# Altium integrated library Renesas Microcontroller H8S.IntLib: 670 symbols (part 49 of 70)
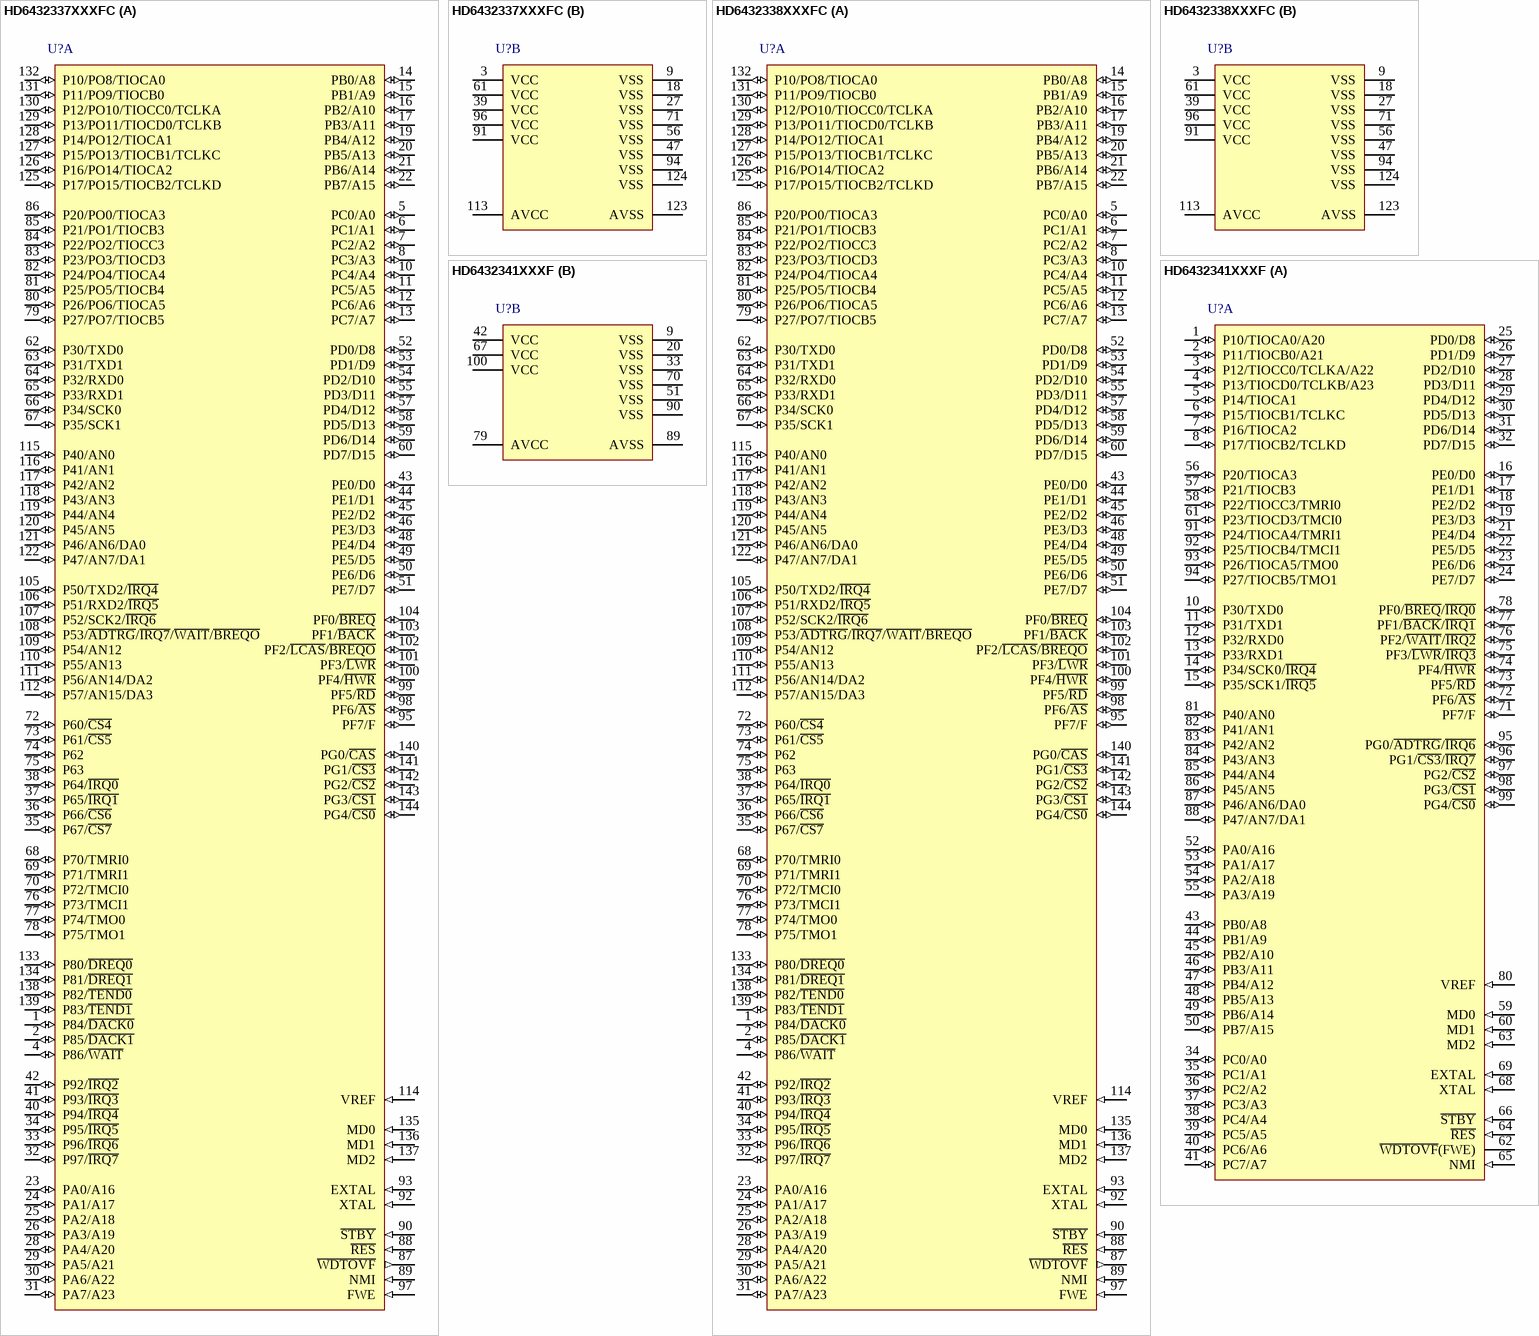
[diagram p269: symbols HD6432337XXXFC to HD6432341XXXF]

## HD6432341XXXF
designator U?
Mask ROM H8S/2300 Series, 2345 Group MCU, 32K ROM, 2K RAM, FP-100A Pkg; Published: 28-Aug-2009; DatasheetVersion: Rev.4.00, Feb-2006; PackageVersion: Sep-2005; PackageReference: PRQP0100JE-B; Publisher: Altium Limited; PackageDescription: 100-Pin Plastic Quad Flat Pack, 20 x 14 x 2.7 mm Body, 0.65 mm Pitch; Code_JEITA: P-QFP100-14x20-0.65; ComponentLink1Description: Manufacturer Link; ComponentLink1URL: http://sg.renesas.com/fmwk.jsp?cnt=h8s_family_landing.jsp&fp=/products/mpumcu/h8s_family/; ComponentLink2Description: Datasheet; ComponentLink2URL: http://documentation.renesas.com/eng/products/mpumcu/rej09b0291_2345hm.pdf; ComponentLink3Description: Packaging Specification; ComponentLink3URL: http://sg.renesas.com/media/products/common_info/package/pdf/ic/code/prqp0100je_b.pdf
footprint PRQP0100JE-B_N (QFP, 100-Leads, Body 20x14mm, Pitch 0.65mm, IPC Medium Density)
footprint PRQP0100JE-B_L (QFP, 100-Leads, Body 20x14mm, Pitch 0.65mm, IPC High Density)
footprint PRQP0100JE-B_M (QFP, 100-Leads, Body 20x14mm, Pitch 0.65mm, IPC Low Density)
part A pins: 1 P10/TIOCA0/A20 (io), 2 P11/TIOCB0/A21 (io), 3 P12/TIOCC0/TCLKA/A22 (io), 4 P13/TIOCD0/TCLKB/A23 (io), 5 P14/TIOCA1 (io), 6 P15/TIOCB1/TCLKC (io), 7 P16/TIOCA2 (io), 8 P17/TIOCB2/TCLKD (io), 10 P30/TXD0 (io), 11 P31/TXD1 (io), 12 P32/RXD0 (io), 13 P33/RXD1 (io), 14 P34/SCK0/~{IRQ4} (io), 15 P35/SCK1/~{IRQ5} (io), 16 PE0/D0 (io), 17 PE1/D1 (io), 18 PE2/D2 (io), 19 PE3/D3 (io), 21 PE4/D4 (io), 22 PE5/D5 (io), 23 PE6/D6 (io), 24 PE7/D7 (io), 25 PD0/D8 (io), 26 PD1/D9 (io), 27 PD2/D10 (io), 28 PD3/D11 (io), 29 PD4/D12 (io), 30 PD5/D13 (io), 31 PD6/D14 (io), 32 PD7/D15 (io), 34 PC0/A0 (io), 35 PC1/A1 (io), 36 PC2/A2 (io), 37 PC3/A3 (io), 38 PC4/A4 (io), 39 PC5/A5 (io), 40 PC6/A6 (io), 41 PC7/A7 (io), 43 PB0/A8 (io), 44 PB1/A9 (io), 45 PB2/A10 (io), 46 PB3/A11 (io), 47 PB4/A12 (io), 48 PB5/A13 (io), 49 PB6/A14 (io), 50 PB7/A15 (io), 52 PA0/A16 (io), 53 PA1/A17 (io), 54 PA2/A18 (io), 55 PA3/A19 (io), 56 P20/TIOCA3 (io), 57 P21/TIOCB3 (io), 58 P22/TIOCC3/TMRI0 (io), 59 MD0 (in), 60 MD1 (in), 61 P23/TIOCD3/TMCI0 (io), 62 ~{WDTOVF}(FWE), 63 MD2 (in), 64 ~{RES} (in), 65 NMI (in), 66 ~{STBY} (in), 68 XTAL (in), 69 EXTAL (in), 71 PF7/F (io), 72 PF6/~{AS} (io), 73 PF5/~{RD} (io), 74 PF4/~{HWR} (io), 75 PF3/~{LWR}/~{IRQ3} (io), 76 PF2/~{WAIT}/~{IRQ2} (io), 77 PF1/~{BACK}/~{IRQ1} (io), 78 PF0/~{BREQ}/~{IRQ0} (io), 80 VREF (in), 81 P40/AN0 (io), 82 P41/AN1 (io), 83 P42/AN2 (io), 84 P43/AN3 (io), 85 P44/AN4 (io), 86 P45/AN5 (io), 87 P46/AN6/DA0 (io), 88 P47/AN7/DA1 (io), 91 P24/TIOCA4/TMRI1 (io), 92 P25/TIOCB4/TMCI1 (io), 93 P26/TIOCA5/TMO0 (io), 94 P27/TIOCB5/TMO1 (io), 95 PG0/~{ADTRG}/~{IRQ6} (io), 96 PG1/~{CS3}/~{IRQ7} (io), 97 PG2/~{CS2} (io), 98 PG3/~{CS1} (io), 99 PG4/~{CS0} (io)
part B pins: 9 VSS (power), 20 VSS (power), 33 VSS (power), 42 VCC (power), 51 VSS (power), 67 VCC (power), 70 VSS (power), 79 AVCC (power), 89 AVSS (power), 90 VSS (power), 100 VCC (power)

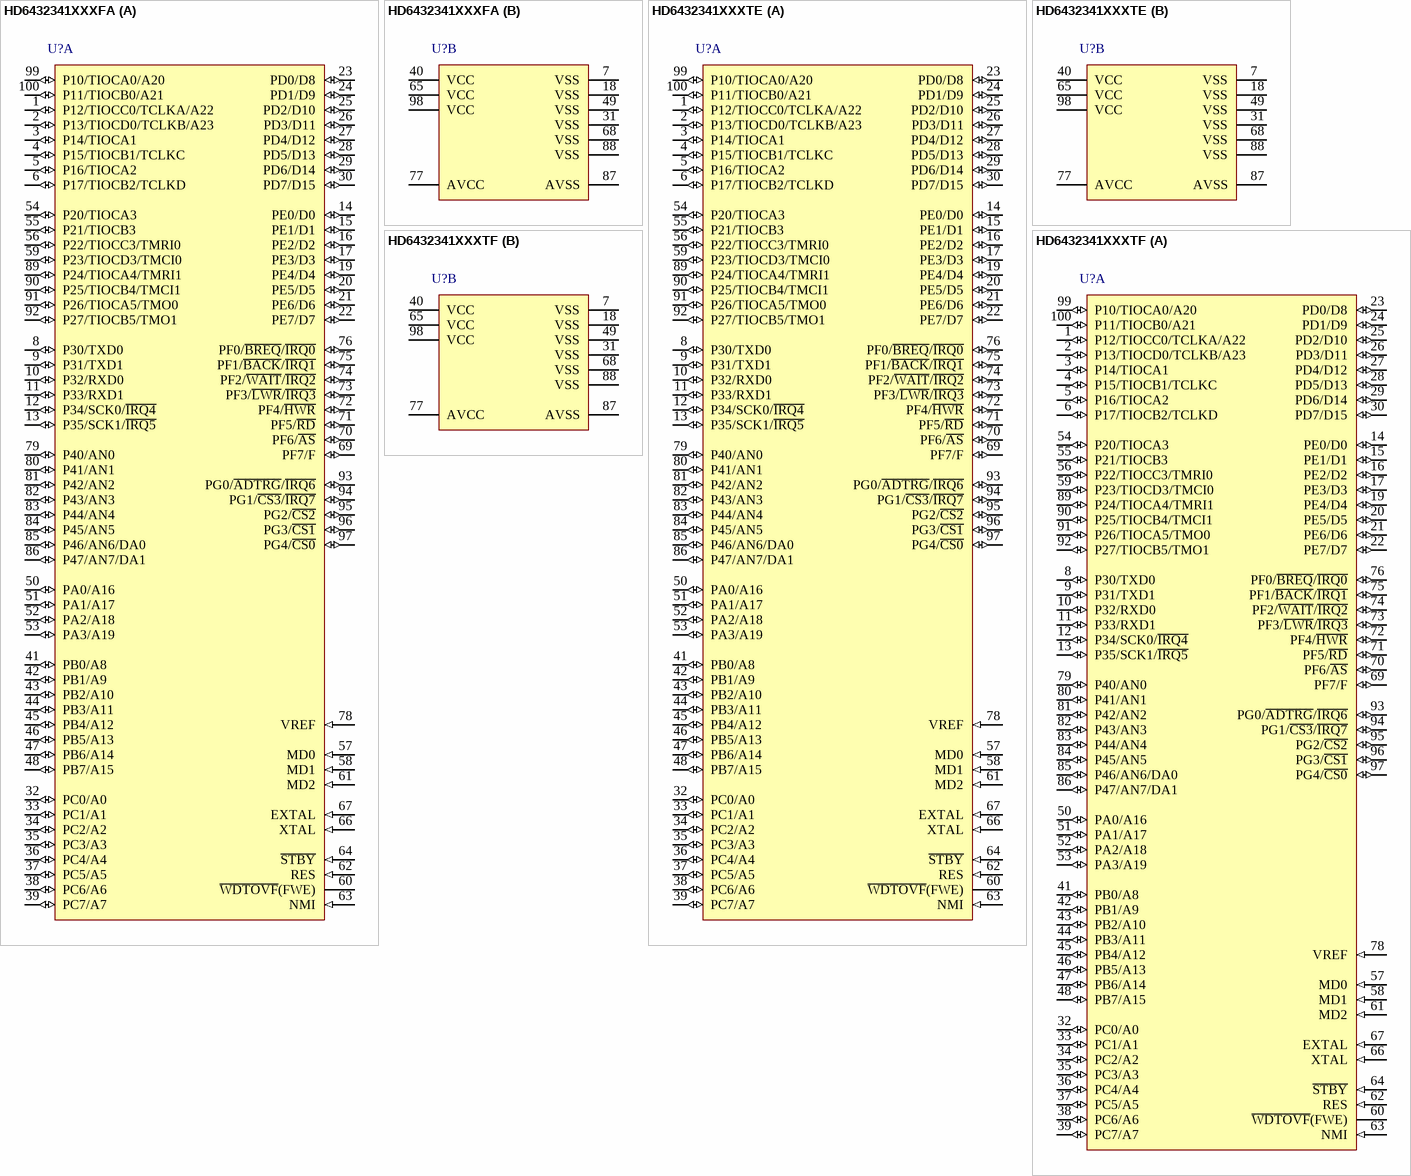
[diagram p169: symbols HD6432341XXXFA to HD6432341XXXTF]

## HD6432341XXXFA
designator U?
Mask ROM H8S/2300 Series, 2345 Group MCU, 32K ROM, 2K RAM, FP-100B Pkg; Published: 28-Aug-2009; DatasheetVersion: Rev.4.00, Feb-2006; PackageVersion: Sep-2009; PackageReference: PRQP0100KA-A; Publisher: Altium Limited; PackageDescription: 100-Pin Plastic Quad Flat Pack, 14 x 14 x 2.7 mm Body, 0.5 mm Pitch; Code_JEITA: P-QFP100-14x14-0.50; ComponentLink1Description: Manufacturer Link; ComponentLink1URL: http://sg.renesas.com/fmwk.jsp?cnt=h8s_family_landing.jsp&fp=/products/mpumcu/h8s_family/; ComponentLink2Description: Datasheet; ComponentLink2URL: http://documentation.renesas.com/eng/products/mpumcu/rej09b0291_2345hm.pdf; ComponentLink3Description: Packaging Specification; ComponentLink3URL: http://sg.renesas.com/media/products/common_info/package/pdf/ic/code/prqp0100ka_a.pdf
footprint PRQP0100KA-A_N (Shrink QFP, 100-Leads, Body 14x14mm, Pitch 0.5mm, IPC Medium Density)
footprint PRQP0100KA-A_L (Shrink QFP, 100-Leads, Body 14x14mm, Pitch 0.5mm, IPC High Density)
footprint PRQP0100KA-A_M (Shrink QFP, 100-Leads, Body 14x14mm, Pitch 0.5mm, IPC Low Density)
part A pins: 1 P12/TIOCC0/TCLKA/A22 (io), 2 P13/TIOCD0/TCLKB/A23 (io), 3 P14/TIOCA1 (io), 4 P15/TIOCB1/TCLKC (io), 5 P16/TIOCA2 (io), 6 P17/TIOCB2/TCLKD (io), 8 P30/TXD0 (io), 9 P31/TXD1 (io), 10 P32/RXD0 (io), 11 P33/RXD1 (io), 12 P34/SCK0/~{IRQ4} (io), 13 P35/SCK1/~{IRQ5} (io), 14 PE0/D0 (io), 15 PE1/D1 (io), 16 PE2/D2 (io), 17 PE3/D3 (io), 19 PE4/D4 (io), 20 PE5/D5 (io), 21 PE6/D6 (io), 22 PE7/D7 (io), 23 PD0/D8 (io), 24 PD1/D9 (io), 25 PD2/D10 (io), 26 PD3/D11 (io), 27 PD4/D12 (io), 28 PD5/D13 (io), 29 PD6/D14 (io), 30 PD7/D15 (io), 32 PC0/A0 (io), 33 PC1/A1 (io), 34 PC2/A2 (io), 35 PC3/A3 (io), 36 PC4/A4 (io), 37 PC5/A5 (io), 38 PC6/A6 (io), 39 PC7/A7 (io), 41 PB0/A8 (io), 42 PB1/A9 (io), 43 PB2/A10 (io), 44 PB3/A11 (io), 45 PB4/A12 (io), 46 PB5/A13 (io), 47 PB6/A14 (io), 48 PB7/A15 (io), 50 PA0/A16 (io), 51 PA1/A17 (io), 52 PA2/A18 (io), 53 PA3/A19 (io), 54 P20/TIOCA3 (io), 55 P21/TIOCB3 (io), 56 P22/TIOCC3/TMRI0 (io), 57 MD0 (in), 58 MD1 (in), 59 P23/TIOCD3/TMCI0 (io), 60 ~{WDTOVF}(FWE), 61 MD2 (in), 62 RES (in), 63 NMI (in), 64 ~{STBY} (in), 66 XTAL (in), 67 EXTAL (in), 69 PF7/F (io), 70 PF6/~{AS} (io), 71 PF5/~{RD} (io), 72 PF4/~{HWR} (io), 73 PF3/~{LWR}/~{IRQ3} (io), 74 PF2/~{WAIT}/~{IRQ2} (io), 75 PF1/~{BACK}/~{IRQ1} (io), 76 PF0/~{BREQ}/~{IRQ0} (io), 78 VREF (in), 79 P40/AN0 (io), 80 P41/AN1 (io), 81 P42/AN2 (io), 82 P43/AN3 (io), 83 P44/AN4 (io), 84 P45/AN5 (io), 85 P46/AN6/DA0 (io), 86 P47/AN7/DA1 (io), 89 P24/TIOCA4/TMRI1 (io), 90 P25/TIOCB4/TMCI1 (io), 91 P26/TIOCA5/TMO0 (io), 92 P27/TIOCB5/TMO1 (io), 93 PG0/~{ADTRG}/~{IRQ6} (io), 94 PG1/~{CS3}/~{IRQ7} (io), 95 PG2/~{CS2} (io), 96 PG3/~{CS1} (io), 97 PG4/~{CS0} (io), 99 P10/TIOCA0/A20 (io), 100 P11/TIOCB0/A21 (io)
part B pins: 7 VSS (power), 18 VSS (power), 31 VSS (power), 40 VCC (power), 49 VSS (power), 65 VCC (power), 68 VSS (power), 77 AVCC (power), 87 AVSS (power), 88 VSS (power), 98 VCC (power)

## HD6432341XXXTE
designator U?
Mask ROM H8S/2300 Series, 2345 Group MCU, 32K ROM, 2K RAM, TFP-100B Pkg; Published: 28-Aug-2009; DatasheetVersion: Rev.4.00, Feb-2006; PackageVersion: Sep-2005; PackageReference: PTQP0100KA-A; Publisher: Altium Limited; PackageDescription: 100-Pin Plastic Thin Quad Flat Pack, 14 x 14 x 1.0 mm Body, 0.5 mm Pitch; Code_JEITA: P-TQFP100-14x14-0.50; ComponentLink1Description: Manufacturer Link; ComponentLink1URL: http://sg.renesas.com/fmwk.jsp?cnt=h8s_family_landing.jsp&fp=/products/mpumcu/h8s_family/; ComponentLink2Description: Datasheet; ComponentLink2URL: http://documentation.renesas.com/eng/products/mpumcu/rej09b0291_2345hm.pdf; ComponentLink3Description: Packaging Specification; ComponentLink3URL: http://sg.renesas.com/media/products/common_info/package/pdf/ic/code/ptqp0100ka_a.pdf
footprint PTQP0100KA-A_N (Thin QFP, 100-Leads, Body 14x14mm, Pitch 0.5mm, IPC Medium Density)
footprint PTQP0100KA-A_L (Thin QFP, 100-Leads, Body 14x14mm, Pitch 0.5mm, IPC High Density)
footprint PTQP0100KA-A_M (Thin QFP, 100-Leads, Body 14x14mm, Pitch 0.5mm, IPC Low Density)
part A pins: 1 P12/TIOCC0/TCLKA/A22 (io), 2 P13/TIOCD0/TCLKB/A23 (io), 3 P14/TIOCA1 (io), 4 P15/TIOCB1/TCLKC (io), 5 P16/TIOCA2 (io), 6 P17/TIOCB2/TCLKD (io), 8 P30/TXD0 (io), 9 P31/TXD1 (io), 10 P32/RXD0 (io), 11 P33/RXD1 (io), 12 P34/SCK0/~{IRQ4} (io), 13 P35/SCK1/~{IRQ5} (io), 14 PE0/D0 (io), 15 PE1/D1 (io), 16 PE2/D2 (io), 17 PE3/D3 (io), 19 PE4/D4 (io), 20 PE5/D5 (io), 21 PE6/D6 (io), 22 PE7/D7 (io), 23 PD0/D8 (io), 24 PD1/D9 (io), 25 PD2/D10 (io), 26 PD3/D11 (io), 27 PD4/D12 (io), 28 PD5/D13 (io), 29 PD6/D14 (io), 30 PD7/D15 (io), 32 PC0/A0 (io), 33 PC1/A1 (io), 34 PC2/A2 (io), 35 PC3/A3 (io), 36 PC4/A4 (io), 37 PC5/A5 (io), 38 PC6/A6 (io), 39 PC7/A7 (io), 41 PB0/A8 (io), 42 PB1/A9 (io), 43 PB2/A10 (io), 44 PB3/A11 (io), 45 PB4/A12 (io), 46 PB5/A13 (io), 47 PB6/A14 (io), 48 PB7/A15 (io), 50 PA0/A16 (io), 51 PA1/A17 (io), 52 PA2/A18 (io), 53 PA3/A19 (io), 54 P20/TIOCA3 (io), 55 P21/TIOCB3 (io), 56 P22/TIOCC3/TMRI0 (io), 57 MD0 (in), 58 MD1 (in), 59 P23/TIOCD3/TMCI0 (io), 60 ~{WDTOVF}(FWE), 61 MD2 (in), 62 RES (in), 63 NMI (in), 64 ~{STBY} (in), 66 XTAL (in), 67 EXTAL (in), 69 PF7/F (io), 70 PF6/~{AS} (io), 71 PF5/~{RD} (io), 72 PF4/~{HWR} (io), 73 PF3/~{LWR}/~{IRQ3} (io), 74 PF2/~{WAIT}/~{IRQ2} (io), 75 PF1/~{BACK}/~{IRQ1} (io), 76 PF0/~{BREQ}/~{IRQ0} (io), 78 VREF (in), 79 P40/AN0 (io), 80 P41/AN1 (io), 81 P42/AN2 (io), 82 P43/AN3 (io), 83 P44/AN4 (io), 84 P45/AN5 (io), 85 P46/AN6/DA0 (io), 86 P47/AN7/DA1 (io), 89 P24/TIOCA4/TMRI1 (io), 90 P25/TIOCB4/TMCI1 (io), 91 P26/TIOCA5/TMO0 (io), 92 P27/TIOCB5/TMO1 (io), 93 PG0/~{ADTRG}/~{IRQ6} (io), 94 PG1/~{CS3}/~{IRQ7} (io), 95 PG2/~{CS2} (io), 96 PG3/~{CS1} (io), 97 PG4/~{CS0} (io), 99 P10/TIOCA0/A20 (io), 100 P11/TIOCB0/A21 (io)
part B pins: 7 VSS (power), 18 VSS (power), 31 VSS (power), 40 VCC (power), 49 VSS (power), 65 VCC (power), 68 VSS (power), 77 AVCC (power), 87 AVSS (power), 88 VSS (power), 98 VCC (power)

## HD6432341XXXTF
designator U?
Mask ROM H8S/2300 Series, 2345 Group MCU, 32K ROM, 2K RAM, TFP-100G Pkg; Published: 28-Aug-2009; DatasheetVersion: Rev.4.00, Feb-2006; PackageVersion: Sep-2005; PackageReference: PTQP0100LC-A; Publisher: Altium Limited; PackageDescription: 100-Pin Plastic Thin QFP, 12 x 12 x 1.0 mm Body, 0.4 mm Pitch; Code_JEITA: P-TQFP100-12x12-0.40; ComponentLink1Description: Manufacturer Link; ComponentLink1URL: http://sg.renesas.com/fmwk.jsp?cnt=h8s_family_landing.jsp&fp=/products/mpumcu/h8s_family/; ComponentLink2Description: Datasheet; ComponentLink2URL: http://documentation.renesas.com/eng/products/mpumcu/rej09b0291_2345hm.pdf; ComponentLink3Description: Packaging Specification; ComponentLink3URL: http://sg.renesas.com/media/products/common_info/package/pdf/ic/code/ptqp0100lc_a.pdf
footprint PTQP0100LC-A_N (Thin QFP, 100-Leads, Body 12x12mm, Pitch 0.4mm, IPC Medium Density)
footprint PTQP0100LC-A_L (Thin QFP, 100-Leads, Body 12x12mm, Pitch 0.4mm, IPC High Density)
footprint PTQP0100LC-A_M (Thin QFP, 100-Leads, Body 12x12mm, Pitch 0.4mm, IPC Low Density)
part A pins: 1 P12/TIOCC0/TCLKA/A22 (io), 2 P13/TIOCD0/TCLKB/A23 (io), 3 P14/TIOCA1 (io), 4 P15/TIOCB1/TCLKC (io), 5 P16/TIOCA2 (io), 6 P17/TIOCB2/TCLKD (io), 8 P30/TXD0 (io), 9 P31/TXD1 (io), 10 P32/RXD0 (io), 11 P33/RXD1 (io), 12 P34/SCK0/~{IRQ4} (io), 13 P35/SCK1/~{IRQ5} (io), 14 PE0/D0 (io), 15 PE1/D1 (io), 16 PE2/D2 (io), 17 PE3/D3 (io), 19 PE4/D4 (io), 20 PE5/D5 (io), 21 PE6/D6 (io), 22 PE7/D7 (io), 23 PD0/D8 (io), 24 PD1/D9 (io), 25 PD2/D10 (io), 26 PD3/D11 (io), 27 PD4/D12 (io), 28 PD5/D13 (io), 29 PD6/D14 (io), 30 PD7/D15 (io), 32 PC0/A0 (io), 33 PC1/A1 (io), 34 PC2/A2 (io), 35 PC3/A3 (io), 36 PC4/A4 (io), 37 PC5/A5 (io), 38 PC6/A6 (io), 39 PC7/A7 (io), 41 PB0/A8 (io), 42 PB1/A9 (io), 43 PB2/A10 (io), 44 PB3/A11 (io), 45 PB4/A12 (io), 46 PB5/A13 (io), 47 PB6/A14 (io), 48 PB7/A15 (io), 50 PA0/A16 (io), 51 PA1/A17 (io), 52 PA2/A18 (io), 53 PA3/A19 (io), 54 P20/TIOCA3 (io), 55 P21/TIOCB3 (io), 56 P22/TIOCC3/TMRI0 (io), 57 MD0 (in), 58 MD1 (in), 59 P23/TIOCD3/TMCI0 (io), 60 ~{WDTOVF}(FWE), 61 MD2 (in), 62 RES (in), 63 NMI (in), 64 ~{STBY} (in), 66 XTAL (in), 67 EXTAL (in), 69 PF7/F (io), 70 PF6/~{AS} (io), 71 PF5/~{RD} (io), 72 PF4/~{HWR} (io), 73 PF3/~{LWR}/~{IRQ3} (io), 74 PF2/~{WAIT}/~{IRQ2} (io), 75 PF1/~{BACK}/~{IRQ1} (io), 76 PF0/~{BREQ}/~{IRQ0} (io), 78 VREF (in), 79 P40/AN0 (io), 80 P41/AN1 (io), 81 P42/AN2 (io), 82 P43/AN3 (io), 83 P44/AN4 (io), 84 P45/AN5 (io), 85 P46/AN6/DA0 (io), 86 P47/AN7/DA1 (io), 89 P24/TIOCA4/TMRI1 (io), 90 P25/TIOCB4/TMCI1 (io), 91 P26/TIOCA5/TMO0 (io), 92 P27/TIOCB5/TMO1 (io), 93 PG0/~{ADTRG}/~{IRQ6} (io), 94 PG1/~{CS3}/~{IRQ7} (io), 95 PG2/~{CS2} (io), 96 PG3/~{CS1} (io), 97 PG4/~{CS0} (io), 99 P10/TIOCA0/A20 (io), 100 P11/TIOCB0/A21 (io)
part B pins: 7 VSS (power), 18 VSS (power), 31 VSS (power), 40 VCC (power), 49 VSS (power), 65 VCC (power), 68 VSS (power), 77 AVCC (power), 87 AVSS (power), 88 VSS (power), 98 VCC (power)

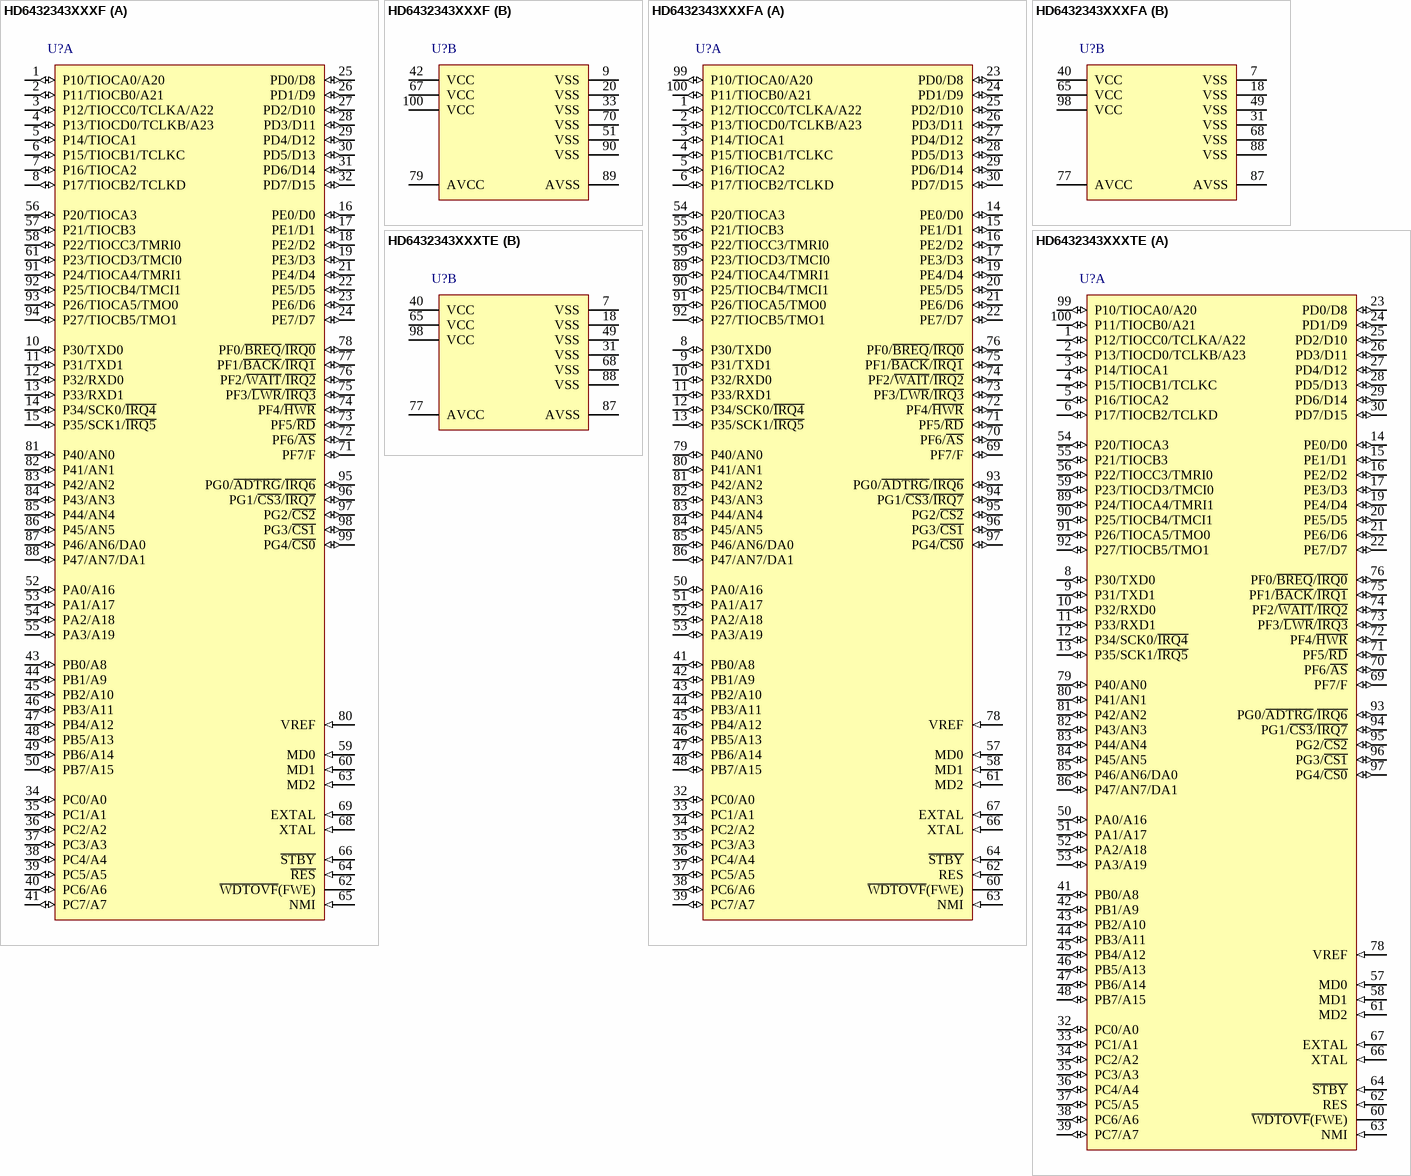
[diagram p170: symbols HD6432343XXXF to HD6432343XXXTE]

## HD6432343XXXF
designator U?
Mask ROM H8S/2300 Series, 2345 Group MCU, 64K ROM, 2K RAM, FP-100A Pkg; Published: 28-Aug-2009; DatasheetVersion: Rev.4.00, Feb-2006; PackageVersion: Sep-2005; PackageReference: PRQP0100JE-B; Publisher: Altium Limited; PackageDescription: 100-Pin Plastic Quad Flat Pack, 20 x 14 x 2.7 mm Body, 0.65 mm Pitch; Code_JEITA: P-QFP100-14x20-0.65; ComponentLink1Description: Manufacturer Link; ComponentLink1URL: http://sg.renesas.com/fmwk.jsp?cnt=h8s_family_landing.jsp&fp=/products/mpumcu/h8s_family/; ComponentLink2Description: Datasheet; ComponentLink2URL: http://documentation.renesas.com/eng/products/mpumcu/rej09b0291_2345hm.pdf; ComponentLink3Description: Packaging Specification; ComponentLink3URL: http://sg.renesas.com/media/products/common_info/package/pdf/ic/code/prqp0100je_b.pdf
footprint PRQP0100JE-B_N (QFP, 100-Leads, Body 20x14mm, Pitch 0.65mm, IPC Medium Density)
footprint PRQP0100JE-B_L (QFP, 100-Leads, Body 20x14mm, Pitch 0.65mm, IPC High Density)
footprint PRQP0100JE-B_M (QFP, 100-Leads, Body 20x14mm, Pitch 0.65mm, IPC Low Density)
part A pins: 1 P10/TIOCA0/A20 (io), 2 P11/TIOCB0/A21 (io), 3 P12/TIOCC0/TCLKA/A22 (io), 4 P13/TIOCD0/TCLKB/A23 (io), 5 P14/TIOCA1 (io), 6 P15/TIOCB1/TCLKC (io), 7 P16/TIOCA2 (io), 8 P17/TIOCB2/TCLKD (io), 10 P30/TXD0 (io), 11 P31/TXD1 (io), 12 P32/RXD0 (io), 13 P33/RXD1 (io), 14 P34/SCK0/~{IRQ4} (io), 15 P35/SCK1/~{IRQ5} (io), 16 PE0/D0 (io), 17 PE1/D1 (io), 18 PE2/D2 (io), 19 PE3/D3 (io), 21 PE4/D4 (io), 22 PE5/D5 (io), 23 PE6/D6 (io), 24 PE7/D7 (io), 25 PD0/D8 (io), 26 PD1/D9 (io), 27 PD2/D10 (io), 28 PD3/D11 (io), 29 PD4/D12 (io), 30 PD5/D13 (io), 31 PD6/D14 (io), 32 PD7/D15 (io), 34 PC0/A0 (io), 35 PC1/A1 (io), 36 PC2/A2 (io), 37 PC3/A3 (io), 38 PC4/A4 (io), 39 PC5/A5 (io), 40 PC6/A6 (io), 41 PC7/A7 (io), 43 PB0/A8 (io), 44 PB1/A9 (io), 45 PB2/A10 (io), 46 PB3/A11 (io), 47 PB4/A12 (io), 48 PB5/A13 (io), 49 PB6/A14 (io), 50 PB7/A15 (io), 52 PA0/A16 (io), 53 PA1/A17 (io), 54 PA2/A18 (io), 55 PA3/A19 (io), 56 P20/TIOCA3 (io), 57 P21/TIOCB3 (io), 58 P22/TIOCC3/TMRI0 (io), 59 MD0 (in), 60 MD1 (in), 61 P23/TIOCD3/TMCI0 (io), 62 ~{WDTOVF}(FWE), 63 MD2 (in), 64 ~{RES} (in), 65 NMI (in), 66 ~{STBY} (in), 68 XTAL (in), 69 EXTAL (in), 71 PF7/F (io), 72 PF6/~{AS} (io), 73 PF5/~{RD} (io), 74 PF4/~{HWR} (io), 75 PF3/~{LWR}/~{IRQ3} (io), 76 PF2/~{WAIT}/~{IRQ2} (io), 77 PF1/~{BACK}/~{IRQ1} (io), 78 PF0/~{BREQ}/~{IRQ0} (io), 80 VREF (in), 81 P40/AN0 (io), 82 P41/AN1 (io), 83 P42/AN2 (io), 84 P43/AN3 (io), 85 P44/AN4 (io), 86 P45/AN5 (io), 87 P46/AN6/DA0 (io), 88 P47/AN7/DA1 (io), 91 P24/TIOCA4/TMRI1 (io), 92 P25/TIOCB4/TMCI1 (io), 93 P26/TIOCA5/TMO0 (io), 94 P27/TIOCB5/TMO1 (io), 95 PG0/~{ADTRG}/~{IRQ6} (io), 96 PG1/~{CS3}/~{IRQ7} (io), 97 PG2/~{CS2} (io), 98 PG3/~{CS1} (io), 99 PG4/~{CS0} (io)
part B pins: 9 VSS (power), 20 VSS (power), 33 VSS (power), 42 VCC (power), 51 VSS (power), 67 VCC (power), 70 VSS (power), 79 AVCC (power), 89 AVSS (power), 90 VSS (power), 100 VCC (power)

## HD6432343XXXFA
designator U?
Mask ROM H8S/2300 Series, 2345 Group MCU, 64K ROM, 2K RAM, FP-100B Pkg; Published: 28-Aug-2009; DatasheetVersion: Rev.4.00, Feb-2006; PackageVersion: Sep-2009; PackageReference: PRQP0100KA-A; Publisher: Altium Limited; PackageDescription: 100-Pin Plastic Quad Flat Pack, 14 x 14 x 2.7 mm Body, 0.5 mm Pitch; Code_JEITA: P-QFP100-14x14-0.50; ComponentLink1Description: Manufacturer Link; ComponentLink1URL: http://sg.renesas.com/fmwk.jsp?cnt=h8s_family_landing.jsp&fp=/products/mpumcu/h8s_family/; ComponentLink2Description: Datasheet; ComponentLink2URL: http://documentation.renesas.com/eng/products/mpumcu/rej09b0291_2345hm.pdf; ComponentLink3Description: Packaging Specification; ComponentLink3URL: http://sg.renesas.com/media/products/common_info/package/pdf/ic/code/prqp0100ka_a.pdf
footprint PRQP0100KA-A_N (Shrink QFP, 100-Leads, Body 14x14mm, Pitch 0.5mm, IPC Medium Density)
footprint PRQP0100KA-A_L (Shrink QFP, 100-Leads, Body 14x14mm, Pitch 0.5mm, IPC High Density)
footprint PRQP0100KA-A_M (Shrink QFP, 100-Leads, Body 14x14mm, Pitch 0.5mm, IPC Low Density)
part A pins: 1 P12/TIOCC0/TCLKA/A22 (io), 2 P13/TIOCD0/TCLKB/A23 (io), 3 P14/TIOCA1 (io), 4 P15/TIOCB1/TCLKC (io), 5 P16/TIOCA2 (io), 6 P17/TIOCB2/TCLKD (io), 8 P30/TXD0 (io), 9 P31/TXD1 (io), 10 P32/RXD0 (io), 11 P33/RXD1 (io), 12 P34/SCK0/~{IRQ4} (io), 13 P35/SCK1/~{IRQ5} (io), 14 PE0/D0 (io), 15 PE1/D1 (io), 16 PE2/D2 (io), 17 PE3/D3 (io), 19 PE4/D4 (io), 20 PE5/D5 (io), 21 PE6/D6 (io), 22 PE7/D7 (io), 23 PD0/D8 (io), 24 PD1/D9 (io), 25 PD2/D10 (io), 26 PD3/D11 (io), 27 PD4/D12 (io), 28 PD5/D13 (io), 29 PD6/D14 (io), 30 PD7/D15 (io), 32 PC0/A0 (io), 33 PC1/A1 (io), 34 PC2/A2 (io), 35 PC3/A3 (io), 36 PC4/A4 (io), 37 PC5/A5 (io), 38 PC6/A6 (io), 39 PC7/A7 (io), 41 PB0/A8 (io), 42 PB1/A9 (io), 43 PB2/A10 (io), 44 PB3/A11 (io), 45 PB4/A12 (io), 46 PB5/A13 (io), 47 PB6/A14 (io), 48 PB7/A15 (io), 50 PA0/A16 (io), 51 PA1/A17 (io), 52 PA2/A18 (io), 53 PA3/A19 (io), 54 P20/TIOCA3 (io), 55 P21/TIOCB3 (io), 56 P22/TIOCC3/TMRI0 (io), 57 MD0 (in), 58 MD1 (in), 59 P23/TIOCD3/TMCI0 (io), 60 ~{WDTOVF}(FWE), 61 MD2 (in), 62 RES (in), 63 NMI (in), 64 ~{STBY} (in), 66 XTAL (in), 67 EXTAL (in), 69 PF7/F (io), 70 PF6/~{AS} (io), 71 PF5/~{RD} (io), 72 PF4/~{HWR} (io), 73 PF3/~{LWR}/~{IRQ3} (io), 74 PF2/~{WAIT}/~{IRQ2} (io), 75 PF1/~{BACK}/~{IRQ1} (io), 76 PF0/~{BREQ}/~{IRQ0} (io), 78 VREF (in), 79 P40/AN0 (io), 80 P41/AN1 (io), 81 P42/AN2 (io), 82 P43/AN3 (io), 83 P44/AN4 (io), 84 P45/AN5 (io), 85 P46/AN6/DA0 (io), 86 P47/AN7/DA1 (io), 89 P24/TIOCA4/TMRI1 (io), 90 P25/TIOCB4/TMCI1 (io), 91 P26/TIOCA5/TMO0 (io), 92 P27/TIOCB5/TMO1 (io), 93 PG0/~{ADTRG}/~{IRQ6} (io), 94 PG1/~{CS3}/~{IRQ7} (io), 95 PG2/~{CS2} (io), 96 PG3/~{CS1} (io), 97 PG4/~{CS0} (io), 99 P10/TIOCA0/A20 (io), 100 P11/TIOCB0/A21 (io)
part B pins: 7 VSS (power), 18 VSS (power), 31 VSS (power), 40 VCC (power), 49 VSS (power), 65 VCC (power), 68 VSS (power), 77 AVCC (power), 87 AVSS (power), 88 VSS (power), 98 VCC (power)

## HD6432343XXXTE
designator U?
Mask ROM H8S/2300 Series, 2345 Group MCU, 64K ROM, 2K RAM, TFP-100B Pkg; Published: 28-Aug-2009; DatasheetVersion: Rev.4.00, Feb-2006; PackageVersion: Sep-2005; PackageReference: PTQP0100KA-A; Publisher: Altium Limited; PackageDescription: 100-Pin Plastic Thin Quad Flat Pack, 14 x 14 x 1.0 mm Body, 0.5 mm Pitch; Code_JEITA: P-TQFP100-14x14-0.50; ComponentLink1Description: Manufacturer Link; ComponentLink1URL: http://sg.renesas.com/fmwk.jsp?cnt=h8s_family_landing.jsp&fp=/products/mpumcu/h8s_family/; ComponentLink2Description: Datasheet; ComponentLink2URL: http://documentation.renesas.com/eng/products/mpumcu/rej09b0291_2345hm.pdf; ComponentLink3Description: Packaging Specification; ComponentLink3URL: http://sg.renesas.com/media/products/common_info/package/pdf/ic/code/ptqp0100ka_a.pdf
footprint PTQP0100KA-A_N (Thin QFP, 100-Leads, Body 14x14mm, Pitch 0.5mm, IPC Medium Density)
footprint PTQP0100KA-A_L (Thin QFP, 100-Leads, Body 14x14mm, Pitch 0.5mm, IPC High Density)
footprint PTQP0100KA-A_M (Thin QFP, 100-Leads, Body 14x14mm, Pitch 0.5mm, IPC Low Density)
part A pins: 1 P12/TIOCC0/TCLKA/A22 (io), 2 P13/TIOCD0/TCLKB/A23 (io), 3 P14/TIOCA1 (io), 4 P15/TIOCB1/TCLKC (io), 5 P16/TIOCA2 (io), 6 P17/TIOCB2/TCLKD (io), 8 P30/TXD0 (io), 9 P31/TXD1 (io), 10 P32/RXD0 (io), 11 P33/RXD1 (io), 12 P34/SCK0/~{IRQ4} (io), 13 P35/SCK1/~{IRQ5} (io), 14 PE0/D0 (io), 15 PE1/D1 (io), 16 PE2/D2 (io), 17 PE3/D3 (io), 19 PE4/D4 (io), 20 PE5/D5 (io), 21 PE6/D6 (io), 22 PE7/D7 (io), 23 PD0/D8 (io), 24 PD1/D9 (io), 25 PD2/D10 (io), 26 PD3/D11 (io), 27 PD4/D12 (io), 28 PD5/D13 (io), 29 PD6/D14 (io), 30 PD7/D15 (io), 32 PC0/A0 (io), 33 PC1/A1 (io), 34 PC2/A2 (io), 35 PC3/A3 (io), 36 PC4/A4 (io), 37 PC5/A5 (io), 38 PC6/A6 (io), 39 PC7/A7 (io), 41 PB0/A8 (io), 42 PB1/A9 (io), 43 PB2/A10 (io), 44 PB3/A11 (io), 45 PB4/A12 (io), 46 PB5/A13 (io), 47 PB6/A14 (io), 48 PB7/A15 (io), 50 PA0/A16 (io), 51 PA1/A17 (io), 52 PA2/A18 (io), 53 PA3/A19 (io), 54 P20/TIOCA3 (io), 55 P21/TIOCB3 (io), 56 P22/TIOCC3/TMRI0 (io), 57 MD0 (in), 58 MD1 (in), 59 P23/TIOCD3/TMCI0 (io), 60 ~{WDTOVF}(FWE), 61 MD2 (in), 62 RES (in), 63 NMI (in), 64 ~{STBY} (in), 66 XTAL (in), 67 EXTAL (in), 69 PF7/F (io), 70 PF6/~{AS} (io), 71 PF5/~{RD} (io), 72 PF4/~{HWR} (io), 73 PF3/~{LWR}/~{IRQ3} (io), 74 PF2/~{WAIT}/~{IRQ2} (io), 75 PF1/~{BACK}/~{IRQ1} (io), 76 PF0/~{BREQ}/~{IRQ0} (io), 78 VREF (in), 79 P40/AN0 (io), 80 P41/AN1 (io), 81 P42/AN2 (io), 82 P43/AN3 (io), 83 P44/AN4 (io), 84 P45/AN5 (io), 85 P46/AN6/DA0 (io), 86 P47/AN7/DA1 (io), 89 P24/TIOCA4/TMRI1 (io), 90 P25/TIOCB4/TMCI1 (io), 91 P26/TIOCA5/TMO0 (io), 92 P27/TIOCB5/TMO1 (io), 93 PG0/~{ADTRG}/~{IRQ6} (io), 94 PG1/~{CS3}/~{IRQ7} (io), 95 PG2/~{CS2} (io), 96 PG3/~{CS1} (io), 97 PG4/~{CS0} (io), 99 P10/TIOCA0/A20 (io), 100 P11/TIOCB0/A21 (io)
part B pins: 7 VSS (power), 18 VSS (power), 31 VSS (power), 40 VCC (power), 49 VSS (power), 65 VCC (power), 68 VSS (power), 77 AVCC (power), 87 AVSS (power), 88 VSS (power), 98 VCC (power)

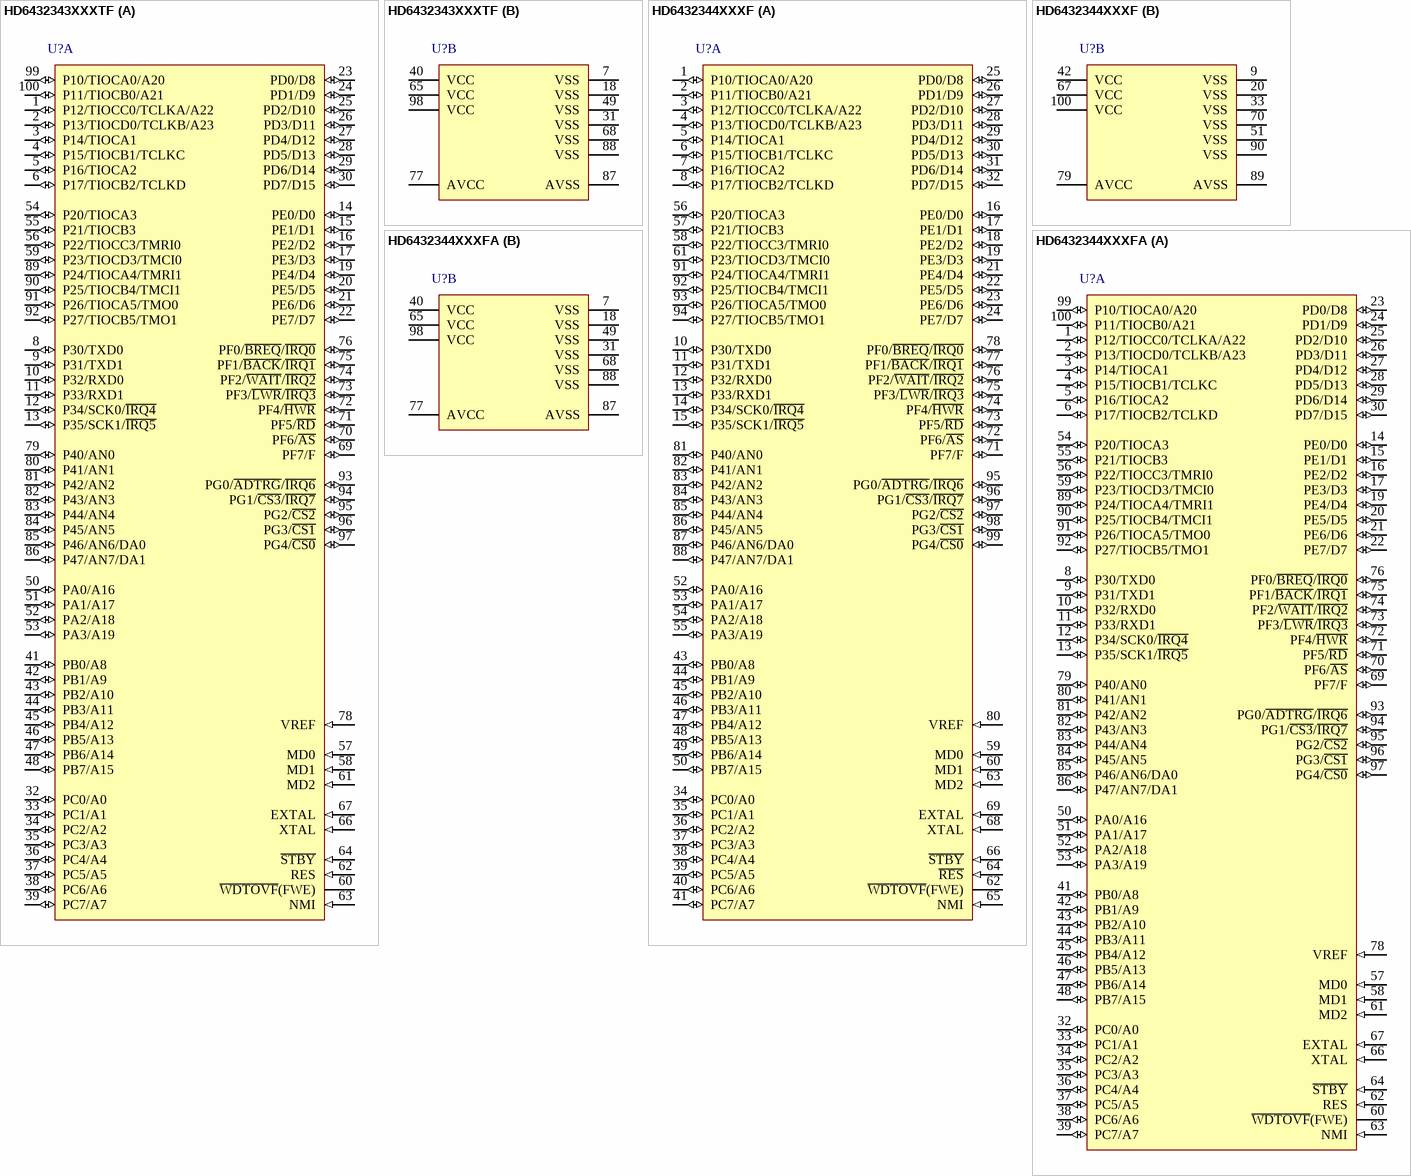
[diagram p171: symbols HD6432343XXXTF to HD6432344XXXFA]

## HD6432343XXXTF
designator U?
Mask ROM H8S/2300 Series, 2345 Group MCU, 64K ROM, 2K RAM, TFP-100G Pkg; Published: 28-Aug-2009; DatasheetVersion: Rev.4.00, Feb-2006; PackageVersion: Sep-2005; PackageReference: PTQP0100LC-A; Publisher: Altium Limited; PackageDescription: 100-Pin Plastic Thin QFP, 12 x 12 x 1.0 mm Body, 0.4 mm Pitch; Code_JEITA: P-TQFP100-12x12-0.40; ComponentLink1Description: Manufacturer Link; ComponentLink1URL: http://sg.renesas.com/fmwk.jsp?cnt=h8s_family_landing.jsp&fp=/products/mpumcu/h8s_family/; ComponentLink2Description: Datasheet; ComponentLink2URL: http://documentation.renesas.com/eng/products/mpumcu/rej09b0291_2345hm.pdf; ComponentLink3Description: Packaging Specification; ComponentLink3URL: http://sg.renesas.com/media/products/common_info/package/pdf/ic/code/ptqp0100lc_a.pdf
footprint PTQP0100LC-A_N (Thin QFP, 100-Leads, Body 12x12mm, Pitch 0.4mm, IPC Medium Density)
footprint PTQP0100LC-A_L (Thin QFP, 100-Leads, Body 12x12mm, Pitch 0.4mm, IPC High Density)
footprint PTQP0100LC-A_M (Thin QFP, 100-Leads, Body 12x12mm, Pitch 0.4mm, IPC Low Density)
part A pins: 1 P12/TIOCC0/TCLKA/A22 (io), 2 P13/TIOCD0/TCLKB/A23 (io), 3 P14/TIOCA1 (io), 4 P15/TIOCB1/TCLKC (io), 5 P16/TIOCA2 (io), 6 P17/TIOCB2/TCLKD (io), 8 P30/TXD0 (io), 9 P31/TXD1 (io), 10 P32/RXD0 (io), 11 P33/RXD1 (io), 12 P34/SCK0/~{IRQ4} (io), 13 P35/SCK1/~{IRQ5} (io), 14 PE0/D0 (io), 15 PE1/D1 (io), 16 PE2/D2 (io), 17 PE3/D3 (io), 19 PE4/D4 (io), 20 PE5/D5 (io), 21 PE6/D6 (io), 22 PE7/D7 (io), 23 PD0/D8 (io), 24 PD1/D9 (io), 25 PD2/D10 (io), 26 PD3/D11 (io), 27 PD4/D12 (io), 28 PD5/D13 (io), 29 PD6/D14 (io), 30 PD7/D15 (io), 32 PC0/A0 (io), 33 PC1/A1 (io), 34 PC2/A2 (io), 35 PC3/A3 (io), 36 PC4/A4 (io), 37 PC5/A5 (io), 38 PC6/A6 (io), 39 PC7/A7 (io), 41 PB0/A8 (io), 42 PB1/A9 (io), 43 PB2/A10 (io), 44 PB3/A11 (io), 45 PB4/A12 (io), 46 PB5/A13 (io), 47 PB6/A14 (io), 48 PB7/A15 (io), 50 PA0/A16 (io), 51 PA1/A17 (io), 52 PA2/A18 (io), 53 PA3/A19 (io), 54 P20/TIOCA3 (io), 55 P21/TIOCB3 (io), 56 P22/TIOCC3/TMRI0 (io), 57 MD0 (in), 58 MD1 (in), 59 P23/TIOCD3/TMCI0 (io), 60 ~{WDTOVF}(FWE), 61 MD2 (in), 62 RES (in), 63 NMI (in), 64 ~{STBY} (in), 66 XTAL (in), 67 EXTAL (in), 69 PF7/F (io), 70 PF6/~{AS} (io), 71 PF5/~{RD} (io), 72 PF4/~{HWR} (io), 73 PF3/~{LWR}/~{IRQ3} (io), 74 PF2/~{WAIT}/~{IRQ2} (io), 75 PF1/~{BACK}/~{IRQ1} (io), 76 PF0/~{BREQ}/~{IRQ0} (io), 78 VREF (in), 79 P40/AN0 (io), 80 P41/AN1 (io), 81 P42/AN2 (io), 82 P43/AN3 (io), 83 P44/AN4 (io), 84 P45/AN5 (io), 85 P46/AN6/DA0 (io), 86 P47/AN7/DA1 (io), 89 P24/TIOCA4/TMRI1 (io), 90 P25/TIOCB4/TMCI1 (io), 91 P26/TIOCA5/TMO0 (io), 92 P27/TIOCB5/TMO1 (io), 93 PG0/~{ADTRG}/~{IRQ6} (io), 94 PG1/~{CS3}/~{IRQ7} (io), 95 PG2/~{CS2} (io), 96 PG3/~{CS1} (io), 97 PG4/~{CS0} (io), 99 P10/TIOCA0/A20 (io), 100 P11/TIOCB0/A21 (io)
part B pins: 7 VSS (power), 18 VSS (power), 31 VSS (power), 40 VCC (power), 49 VSS (power), 65 VCC (power), 68 VSS (power), 77 AVCC (power), 87 AVSS (power), 88 VSS (power), 98 VCC (power)

## HD6432344XXXF
designator U?
Mask ROM H8S/2300 Series, 2345 Group MCU, 96K ROM, 4K RAM, FP-100A Pkg; Published: 28-Aug-2009; DatasheetVersion: Rev.4.00, Feb-2006; PackageVersion: Sep-2005; PackageReference: PRQP0100JE-B; Publisher: Altium Limited; PackageDescription: 100-Pin Plastic Quad Flat Pack, 20 x 14 x 2.7 mm Body, 0.65 mm Pitch; Code_JEITA: P-QFP100-14x20-0.65; ComponentLink1Description: Manufacturer Link; ComponentLink1URL: http://sg.renesas.com/fmwk.jsp?cnt=h8s_family_landing.jsp&fp=/products/mpumcu/h8s_family/; ComponentLink2Description: Datasheet; ComponentLink2URL: http://documentation.renesas.com/eng/products/mpumcu/rej09b0291_2345hm.pdf; ComponentLink3Description: Packaging Specification; ComponentLink3URL: http://sg.renesas.com/media/products/common_info/package/pdf/ic/code/prqp0100je_b.pdf
footprint PRQP0100JE-B_N (QFP, 100-Leads, Body 20x14mm, Pitch 0.65mm, IPC Medium Density)
footprint PRQP0100JE-B_L (QFP, 100-Leads, Body 20x14mm, Pitch 0.65mm, IPC High Density)
footprint PRQP0100JE-B_M (QFP, 100-Leads, Body 20x14mm, Pitch 0.65mm, IPC Low Density)
part A pins: 1 P10/TIOCA0/A20 (io), 2 P11/TIOCB0/A21 (io), 3 P12/TIOCC0/TCLKA/A22 (io), 4 P13/TIOCD0/TCLKB/A23 (io), 5 P14/TIOCA1 (io), 6 P15/TIOCB1/TCLKC (io), 7 P16/TIOCA2 (io), 8 P17/TIOCB2/TCLKD (io), 10 P30/TXD0 (io), 11 P31/TXD1 (io), 12 P32/RXD0 (io), 13 P33/RXD1 (io), 14 P34/SCK0/~{IRQ4} (io), 15 P35/SCK1/~{IRQ5} (io), 16 PE0/D0 (io), 17 PE1/D1 (io), 18 PE2/D2 (io), 19 PE3/D3 (io), 21 PE4/D4 (io), 22 PE5/D5 (io), 23 PE6/D6 (io), 24 PE7/D7 (io), 25 PD0/D8 (io), 26 PD1/D9 (io), 27 PD2/D10 (io), 28 PD3/D11 (io), 29 PD4/D12 (io), 30 PD5/D13 (io), 31 PD6/D14 (io), 32 PD7/D15 (io), 34 PC0/A0 (io), 35 PC1/A1 (io), 36 PC2/A2 (io), 37 PC3/A3 (io), 38 PC4/A4 (io), 39 PC5/A5 (io), 40 PC6/A6 (io), 41 PC7/A7 (io), 43 PB0/A8 (io), 44 PB1/A9 (io), 45 PB2/A10 (io), 46 PB3/A11 (io), 47 PB4/A12 (io), 48 PB5/A13 (io), 49 PB6/A14 (io), 50 PB7/A15 (io), 52 PA0/A16 (io), 53 PA1/A17 (io), 54 PA2/A18 (io), 55 PA3/A19 (io), 56 P20/TIOCA3 (io), 57 P21/TIOCB3 (io), 58 P22/TIOCC3/TMRI0 (io), 59 MD0 (in), 60 MD1 (in), 61 P23/TIOCD3/TMCI0 (io), 62 ~{WDTOVF}(FWE), 63 MD2 (in), 64 ~{RES} (in), 65 NMI (in), 66 ~{STBY} (in), 68 XTAL (in), 69 EXTAL (in), 71 PF7/F (io), 72 PF6/~{AS} (io), 73 PF5/~{RD} (io), 74 PF4/~{HWR} (io), 75 PF3/~{LWR}/~{IRQ3} (io), 76 PF2/~{WAIT}/~{IRQ2} (io), 77 PF1/~{BACK}/~{IRQ1} (io), 78 PF0/~{BREQ}/~{IRQ0} (io), 80 VREF (in), 81 P40/AN0 (io), 82 P41/AN1 (io), 83 P42/AN2 (io), 84 P43/AN3 (io), 85 P44/AN4 (io), 86 P45/AN5 (io), 87 P46/AN6/DA0 (io), 88 P47/AN7/DA1 (io), 91 P24/TIOCA4/TMRI1 (io), 92 P25/TIOCB4/TMCI1 (io), 93 P26/TIOCA5/TMO0 (io), 94 P27/TIOCB5/TMO1 (io), 95 PG0/~{ADTRG}/~{IRQ6} (io), 96 PG1/~{CS3}/~{IRQ7} (io), 97 PG2/~{CS2} (io), 98 PG3/~{CS1} (io), 99 PG4/~{CS0} (io)
part B pins: 9 VSS (power), 20 VSS (power), 33 VSS (power), 42 VCC (power), 51 VSS (power), 67 VCC (power), 70 VSS (power), 79 AVCC (power), 89 AVSS (power), 90 VSS (power), 100 VCC (power)

## HD6432344XXXFA
designator U?
Mask ROM H8S/2300 Series, 2345 Group MCU, 96K ROM, 4K RAM, FP-100B Pkg; Published: 28-Aug-2009; DatasheetVersion: Rev.4.00, Feb-2006; PackageVersion: Sep-2009; PackageReference: PRQP0100KA-A; Publisher: Altium Limited; PackageDescription: 100-Pin Plastic Quad Flat Pack, 14 x 14 x 2.7 mm Body, 0.5 mm Pitch; Code_JEITA: P-QFP100-14x14-0.50; ComponentLink1Description: Manufacturer Link; ComponentLink1URL: http://sg.renesas.com/fmwk.jsp?cnt=h8s_family_landing.jsp&fp=/products/mpumcu/h8s_family/; ComponentLink2Description: Datasheet; ComponentLink2URL: http://documentation.renesas.com/eng/products/mpumcu/rej09b0291_2345hm.pdf; ComponentLink3Description: Packaging Specification; ComponentLink3URL: http://sg.renesas.com/media/products/common_info/package/pdf/ic/code/prqp0100ka_a.pdf
footprint PRQP0100KA-A_N (Shrink QFP, 100-Leads, Body 14x14mm, Pitch 0.5mm, IPC Medium Density)
footprint PRQP0100KA-A_L (Shrink QFP, 100-Leads, Body 14x14mm, Pitch 0.5mm, IPC High Density)
footprint PRQP0100KA-A_M (Shrink QFP, 100-Leads, Body 14x14mm, Pitch 0.5mm, IPC Low Density)
part A pins: 1 P12/TIOCC0/TCLKA/A22 (io), 2 P13/TIOCD0/TCLKB/A23 (io), 3 P14/TIOCA1 (io), 4 P15/TIOCB1/TCLKC (io), 5 P16/TIOCA2 (io), 6 P17/TIOCB2/TCLKD (io), 8 P30/TXD0 (io), 9 P31/TXD1 (io), 10 P32/RXD0 (io), 11 P33/RXD1 (io), 12 P34/SCK0/~{IRQ4} (io), 13 P35/SCK1/~{IRQ5} (io), 14 PE0/D0 (io), 15 PE1/D1 (io), 16 PE2/D2 (io), 17 PE3/D3 (io), 19 PE4/D4 (io), 20 PE5/D5 (io), 21 PE6/D6 (io), 22 PE7/D7 (io), 23 PD0/D8 (io), 24 PD1/D9 (io), 25 PD2/D10 (io), 26 PD3/D11 (io), 27 PD4/D12 (io), 28 PD5/D13 (io), 29 PD6/D14 (io), 30 PD7/D15 (io), 32 PC0/A0 (io), 33 PC1/A1 (io), 34 PC2/A2 (io), 35 PC3/A3 (io), 36 PC4/A4 (io), 37 PC5/A5 (io), 38 PC6/A6 (io), 39 PC7/A7 (io), 41 PB0/A8 (io), 42 PB1/A9 (io), 43 PB2/A10 (io), 44 PB3/A11 (io), 45 PB4/A12 (io), 46 PB5/A13 (io), 47 PB6/A14 (io), 48 PB7/A15 (io), 50 PA0/A16 (io), 51 PA1/A17 (io), 52 PA2/A18 (io), 53 PA3/A19 (io), 54 P20/TIOCA3 (io), 55 P21/TIOCB3 (io), 56 P22/TIOCC3/TMRI0 (io), 57 MD0 (in), 58 MD1 (in), 59 P23/TIOCD3/TMCI0 (io), 60 ~{WDTOVF}(FWE), 61 MD2 (in), 62 RES (in), 63 NMI (in), 64 ~{STBY} (in), 66 XTAL (in), 67 EXTAL (in), 69 PF7/F (io), 70 PF6/~{AS} (io), 71 PF5/~{RD} (io), 72 PF4/~{HWR} (io), 73 PF3/~{LWR}/~{IRQ3} (io), 74 PF2/~{WAIT}/~{IRQ2} (io), 75 PF1/~{BACK}/~{IRQ1} (io), 76 PF0/~{BREQ}/~{IRQ0} (io), 78 VREF (in), 79 P40/AN0 (io), 80 P41/AN1 (io), 81 P42/AN2 (io), 82 P43/AN3 (io), 83 P44/AN4 (io), 84 P45/AN5 (io), 85 P46/AN6/DA0 (io), 86 P47/AN7/DA1 (io), 89 P24/TIOCA4/TMRI1 (io), 90 P25/TIOCB4/TMCI1 (io), 91 P26/TIOCA5/TMO0 (io), 92 P27/TIOCB5/TMO1 (io), 93 PG0/~{ADTRG}/~{IRQ6} (io), 94 PG1/~{CS3}/~{IRQ7} (io), 95 PG2/~{CS2} (io), 96 PG3/~{CS1} (io), 97 PG4/~{CS0} (io), 99 P10/TIOCA0/A20 (io), 100 P11/TIOCB0/A21 (io)
part B pins: 7 VSS (power), 18 VSS (power), 31 VSS (power), 40 VCC (power), 49 VSS (power), 65 VCC (power), 68 VSS (power), 77 AVCC (power), 87 AVSS (power), 88 VSS (power), 98 VCC (power)

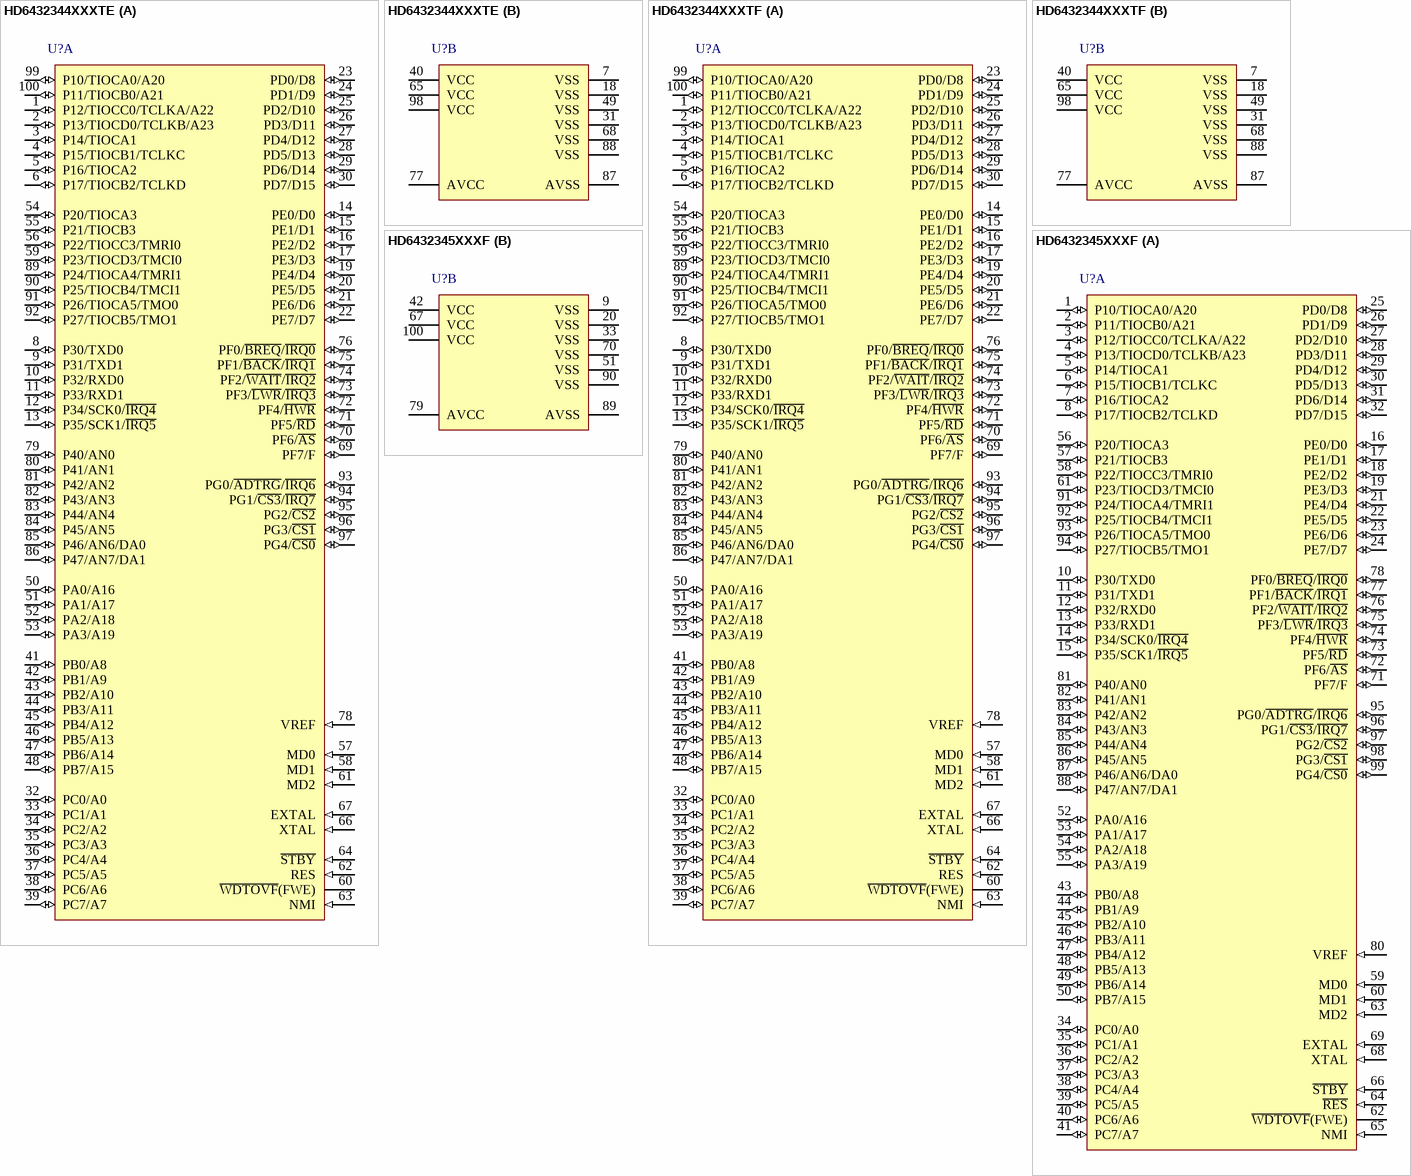
[diagram p172: symbols HD6432344XXXTE to HD6432345XXXF]

## HD6432344XXXTE
designator U?
Mask ROM H8S/2300 Series, 2345 Group MCU, 96K ROM, 4K RAM, TFP-100B Pkg; Published: 28-Aug-2009; DatasheetVersion: Rev.4.00, Feb-2006; PackageVersion: Sep-2005; PackageReference: PTQP0100KA-A; Publisher: Altium Limited; PackageDescription: 100-Pin Plastic Thin Quad Flat Pack, 14 x 14 x 1.0 mm Body, 0.5 mm Pitch; Code_JEITA: P-TQFP100-14x14-0.50; ComponentLink1Description: Manufacturer Link; ComponentLink1URL: http://sg.renesas.com/fmwk.jsp?cnt=h8s_family_landing.jsp&fp=/products/mpumcu/h8s_family/; ComponentLink2Description: Datasheet; ComponentLink2URL: http://documentation.renesas.com/eng/products/mpumcu/rej09b0291_2345hm.pdf; ComponentLink3Description: Packaging Specification; ComponentLink3URL: http://sg.renesas.com/media/products/common_info/package/pdf/ic/code/ptqp0100ka_a.pdf
footprint PTQP0100KA-A_N (Thin QFP, 100-Leads, Body 14x14mm, Pitch 0.5mm, IPC Medium Density)
footprint PTQP0100KA-A_L (Thin QFP, 100-Leads, Body 14x14mm, Pitch 0.5mm, IPC High Density)
footprint PTQP0100KA-A_M (Thin QFP, 100-Leads, Body 14x14mm, Pitch 0.5mm, IPC Low Density)
part A pins: 1 P12/TIOCC0/TCLKA/A22 (io), 2 P13/TIOCD0/TCLKB/A23 (io), 3 P14/TIOCA1 (io), 4 P15/TIOCB1/TCLKC (io), 5 P16/TIOCA2 (io), 6 P17/TIOCB2/TCLKD (io), 8 P30/TXD0 (io), 9 P31/TXD1 (io), 10 P32/RXD0 (io), 11 P33/RXD1 (io), 12 P34/SCK0/~{IRQ4} (io), 13 P35/SCK1/~{IRQ5} (io), 14 PE0/D0 (io), 15 PE1/D1 (io), 16 PE2/D2 (io), 17 PE3/D3 (io), 19 PE4/D4 (io), 20 PE5/D5 (io), 21 PE6/D6 (io), 22 PE7/D7 (io), 23 PD0/D8 (io), 24 PD1/D9 (io), 25 PD2/D10 (io), 26 PD3/D11 (io), 27 PD4/D12 (io), 28 PD5/D13 (io), 29 PD6/D14 (io), 30 PD7/D15 (io), 32 PC0/A0 (io), 33 PC1/A1 (io), 34 PC2/A2 (io), 35 PC3/A3 (io), 36 PC4/A4 (io), 37 PC5/A5 (io), 38 PC6/A6 (io), 39 PC7/A7 (io), 41 PB0/A8 (io), 42 PB1/A9 (io), 43 PB2/A10 (io), 44 PB3/A11 (io), 45 PB4/A12 (io), 46 PB5/A13 (io), 47 PB6/A14 (io), 48 PB7/A15 (io), 50 PA0/A16 (io), 51 PA1/A17 (io), 52 PA2/A18 (io), 53 PA3/A19 (io), 54 P20/TIOCA3 (io), 55 P21/TIOCB3 (io), 56 P22/TIOCC3/TMRI0 (io), 57 MD0 (in), 58 MD1 (in), 59 P23/TIOCD3/TMCI0 (io), 60 ~{WDTOVF}(FWE), 61 MD2 (in), 62 RES (in), 63 NMI (in), 64 ~{STBY} (in), 66 XTAL (in), 67 EXTAL (in), 69 PF7/F (io), 70 PF6/~{AS} (io), 71 PF5/~{RD} (io), 72 PF4/~{HWR} (io), 73 PF3/~{LWR}/~{IRQ3} (io), 74 PF2/~{WAIT}/~{IRQ2} (io), 75 PF1/~{BACK}/~{IRQ1} (io), 76 PF0/~{BREQ}/~{IRQ0} (io), 78 VREF (in), 79 P40/AN0 (io), 80 P41/AN1 (io), 81 P42/AN2 (io), 82 P43/AN3 (io), 83 P44/AN4 (io), 84 P45/AN5 (io), 85 P46/AN6/DA0 (io), 86 P47/AN7/DA1 (io), 89 P24/TIOCA4/TMRI1 (io), 90 P25/TIOCB4/TMCI1 (io), 91 P26/TIOCA5/TMO0 (io), 92 P27/TIOCB5/TMO1 (io), 93 PG0/~{ADTRG}/~{IRQ6} (io), 94 PG1/~{CS3}/~{IRQ7} (io), 95 PG2/~{CS2} (io), 96 PG3/~{CS1} (io), 97 PG4/~{CS0} (io), 99 P10/TIOCA0/A20 (io), 100 P11/TIOCB0/A21 (io)
part B pins: 7 VSS (power), 18 VSS (power), 31 VSS (power), 40 VCC (power), 49 VSS (power), 65 VCC (power), 68 VSS (power), 77 AVCC (power), 87 AVSS (power), 88 VSS (power), 98 VCC (power)

## HD6432344XXXTF
designator U?
Mask ROM H8S/2300 Series, 2345 Group MCU, 96K ROM, 4K RAM, TFP-100G Pkg; Published: 28-Aug-2009; DatasheetVersion: Rev.4.00, Feb-2006; PackageVersion: Sep-2005; PackageReference: PTQP0100LC-A; Publisher: Altium Limited; PackageDescription: 100-Pin Plastic Thin QFP, 12 x 12 x 1.0 mm Body, 0.4 mm Pitch; Code_JEITA: P-TQFP100-12x12-0.40; ComponentLink1Description: Manufacturer Link; ComponentLink1URL: http://sg.renesas.com/fmwk.jsp?cnt=h8s_family_landing.jsp&fp=/products/mpumcu/h8s_family/; ComponentLink2Description: Datasheet; ComponentLink2URL: http://documentation.renesas.com/eng/products/mpumcu/rej09b0291_2345hm.pdf; ComponentLink3Description: Packaging Specification; ComponentLink3URL: http://sg.renesas.com/media/products/common_info/package/pdf/ic/code/ptqp0100lc_a.pdf
footprint PTQP0100LC-A_N (Thin QFP, 100-Leads, Body 12x12mm, Pitch 0.4mm, IPC Medium Density)
footprint PTQP0100LC-A_L (Thin QFP, 100-Leads, Body 12x12mm, Pitch 0.4mm, IPC High Density)
footprint PTQP0100LC-A_M (Thin QFP, 100-Leads, Body 12x12mm, Pitch 0.4mm, IPC Low Density)
part A pins: 1 P12/TIOCC0/TCLKA/A22 (io), 2 P13/TIOCD0/TCLKB/A23 (io), 3 P14/TIOCA1 (io), 4 P15/TIOCB1/TCLKC (io), 5 P16/TIOCA2 (io), 6 P17/TIOCB2/TCLKD (io), 8 P30/TXD0 (io), 9 P31/TXD1 (io), 10 P32/RXD0 (io), 11 P33/RXD1 (io), 12 P34/SCK0/~{IRQ4} (io), 13 P35/SCK1/~{IRQ5} (io), 14 PE0/D0 (io), 15 PE1/D1 (io), 16 PE2/D2 (io), 17 PE3/D3 (io), 19 PE4/D4 (io), 20 PE5/D5 (io), 21 PE6/D6 (io), 22 PE7/D7 (io), 23 PD0/D8 (io), 24 PD1/D9 (io), 25 PD2/D10 (io), 26 PD3/D11 (io), 27 PD4/D12 (io), 28 PD5/D13 (io), 29 PD6/D14 (io), 30 PD7/D15 (io), 32 PC0/A0 (io), 33 PC1/A1 (io), 34 PC2/A2 (io), 35 PC3/A3 (io), 36 PC4/A4 (io), 37 PC5/A5 (io), 38 PC6/A6 (io), 39 PC7/A7 (io), 41 PB0/A8 (io), 42 PB1/A9 (io), 43 PB2/A10 (io), 44 PB3/A11 (io), 45 PB4/A12 (io), 46 PB5/A13 (io), 47 PB6/A14 (io), 48 PB7/A15 (io), 50 PA0/A16 (io), 51 PA1/A17 (io), 52 PA2/A18 (io), 53 PA3/A19 (io), 54 P20/TIOCA3 (io), 55 P21/TIOCB3 (io), 56 P22/TIOCC3/TMRI0 (io), 57 MD0 (in), 58 MD1 (in), 59 P23/TIOCD3/TMCI0 (io), 60 ~{WDTOVF}(FWE), 61 MD2 (in), 62 RES (in), 63 NMI (in), 64 ~{STBY} (in), 66 XTAL (in), 67 EXTAL (in), 69 PF7/F (io), 70 PF6/~{AS} (io), 71 PF5/~{RD} (io), 72 PF4/~{HWR} (io), 73 PF3/~{LWR}/~{IRQ3} (io), 74 PF2/~{WAIT}/~{IRQ2} (io), 75 PF1/~{BACK}/~{IRQ1} (io), 76 PF0/~{BREQ}/~{IRQ0} (io), 78 VREF (in), 79 P40/AN0 (io), 80 P41/AN1 (io), 81 P42/AN2 (io), 82 P43/AN3 (io), 83 P44/AN4 (io), 84 P45/AN5 (io), 85 P46/AN6/DA0 (io), 86 P47/AN7/DA1 (io), 89 P24/TIOCA4/TMRI1 (io), 90 P25/TIOCB4/TMCI1 (io), 91 P26/TIOCA5/TMO0 (io), 92 P27/TIOCB5/TMO1 (io), 93 PG0/~{ADTRG}/~{IRQ6} (io), 94 PG1/~{CS3}/~{IRQ7} (io), 95 PG2/~{CS2} (io), 96 PG3/~{CS1} (io), 97 PG4/~{CS0} (io), 99 P10/TIOCA0/A20 (io), 100 P11/TIOCB0/A21 (io)
part B pins: 7 VSS (power), 18 VSS (power), 31 VSS (power), 40 VCC (power), 49 VSS (power), 65 VCC (power), 68 VSS (power), 77 AVCC (power), 87 AVSS (power), 88 VSS (power), 98 VCC (power)

## HD6432345XXXF
designator U?
Mask ROM H8S/2300 Series, 2345 Group MCU, 128K ROM, 4K RAM, FP-100A Pkg; Published: 28-Aug-2009; DatasheetVersion: Rev.4.00, Feb-2006; PackageVersion: Sep-2005; PackageReference: PRQP0100JE-B; Publisher: Altium Limited; PackageDescription: 100-Pin Plastic Quad Flat Pack, 20 x 14 x 2.7 mm Body, 0.65 mm Pitch; Code_JEITA: P-QFP100-14x20-0.65; ComponentLink1Description: Manufacturer Link; ComponentLink1URL: http://sg.renesas.com/fmwk.jsp?cnt=h8s_family_landing.jsp&fp=/products/mpumcu/h8s_family/; ComponentLink2Description: Datasheet; ComponentLink2URL: http://documentation.renesas.com/eng/products/mpumcu/rej09b0291_2345hm.pdf; ComponentLink3Description: Packaging Specification; ComponentLink3URL: http://sg.renesas.com/media/products/common_info/package/pdf/ic/code/prqp0100je_b.pdf
footprint PRQP0100JE-B_N (QFP, 100-Leads, Body 20x14mm, Pitch 0.65mm, IPC Medium Density)
footprint PRQP0100JE-B_L (QFP, 100-Leads, Body 20x14mm, Pitch 0.65mm, IPC High Density)
footprint PRQP0100JE-B_M (QFP, 100-Leads, Body 20x14mm, Pitch 0.65mm, IPC Low Density)
part A pins: 1 P10/TIOCA0/A20 (io), 2 P11/TIOCB0/A21 (io), 3 P12/TIOCC0/TCLKA/A22 (io), 4 P13/TIOCD0/TCLKB/A23 (io), 5 P14/TIOCA1 (io), 6 P15/TIOCB1/TCLKC (io), 7 P16/TIOCA2 (io), 8 P17/TIOCB2/TCLKD (io), 10 P30/TXD0 (io), 11 P31/TXD1 (io), 12 P32/RXD0 (io), 13 P33/RXD1 (io), 14 P34/SCK0/~{IRQ4} (io), 15 P35/SCK1/~{IRQ5} (io), 16 PE0/D0 (io), 17 PE1/D1 (io), 18 PE2/D2 (io), 19 PE3/D3 (io), 21 PE4/D4 (io), 22 PE5/D5 (io), 23 PE6/D6 (io), 24 PE7/D7 (io), 25 PD0/D8 (io), 26 PD1/D9 (io), 27 PD2/D10 (io), 28 PD3/D11 (io), 29 PD4/D12 (io), 30 PD5/D13 (io), 31 PD6/D14 (io), 32 PD7/D15 (io), 34 PC0/A0 (io), 35 PC1/A1 (io), 36 PC2/A2 (io), 37 PC3/A3 (io), 38 PC4/A4 (io), 39 PC5/A5 (io), 40 PC6/A6 (io), 41 PC7/A7 (io), 43 PB0/A8 (io), 44 PB1/A9 (io), 45 PB2/A10 (io), 46 PB3/A11 (io), 47 PB4/A12 (io), 48 PB5/A13 (io), 49 PB6/A14 (io), 50 PB7/A15 (io), 52 PA0/A16 (io), 53 PA1/A17 (io), 54 PA2/A18 (io), 55 PA3/A19 (io), 56 P20/TIOCA3 (io), 57 P21/TIOCB3 (io), 58 P22/TIOCC3/TMRI0 (io), 59 MD0 (in), 60 MD1 (in), 61 P23/TIOCD3/TMCI0 (io), 62 ~{WDTOVF}(FWE), 63 MD2 (in), 64 ~{RES} (in), 65 NMI (in), 66 ~{STBY} (in), 68 XTAL (in), 69 EXTAL (in), 71 PF7/F (io), 72 PF6/~{AS} (io), 73 PF5/~{RD} (io), 74 PF4/~{HWR} (io), 75 PF3/~{LWR}/~{IRQ3} (io), 76 PF2/~{WAIT}/~{IRQ2} (io), 77 PF1/~{BACK}/~{IRQ1} (io), 78 PF0/~{BREQ}/~{IRQ0} (io), 80 VREF (in), 81 P40/AN0 (io), 82 P41/AN1 (io), 83 P42/AN2 (io), 84 P43/AN3 (io), 85 P44/AN4 (io), 86 P45/AN5 (io), 87 P46/AN6/DA0 (io), 88 P47/AN7/DA1 (io), 91 P24/TIOCA4/TMRI1 (io), 92 P25/TIOCB4/TMCI1 (io), 93 P26/TIOCA5/TMO0 (io), 94 P27/TIOCB5/TMO1 (io), 95 PG0/~{ADTRG}/~{IRQ6} (io), 96 PG1/~{CS3}/~{IRQ7} (io), 97 PG2/~{CS2} (io), 98 PG3/~{CS1} (io), 99 PG4/~{CS0} (io)
part B pins: 9 VSS (power), 20 VSS (power), 33 VSS (power), 42 VCC (power), 51 VSS (power), 67 VCC (power), 70 VSS (power), 79 AVCC (power), 89 AVSS (power), 90 VSS (power), 100 VCC (power)

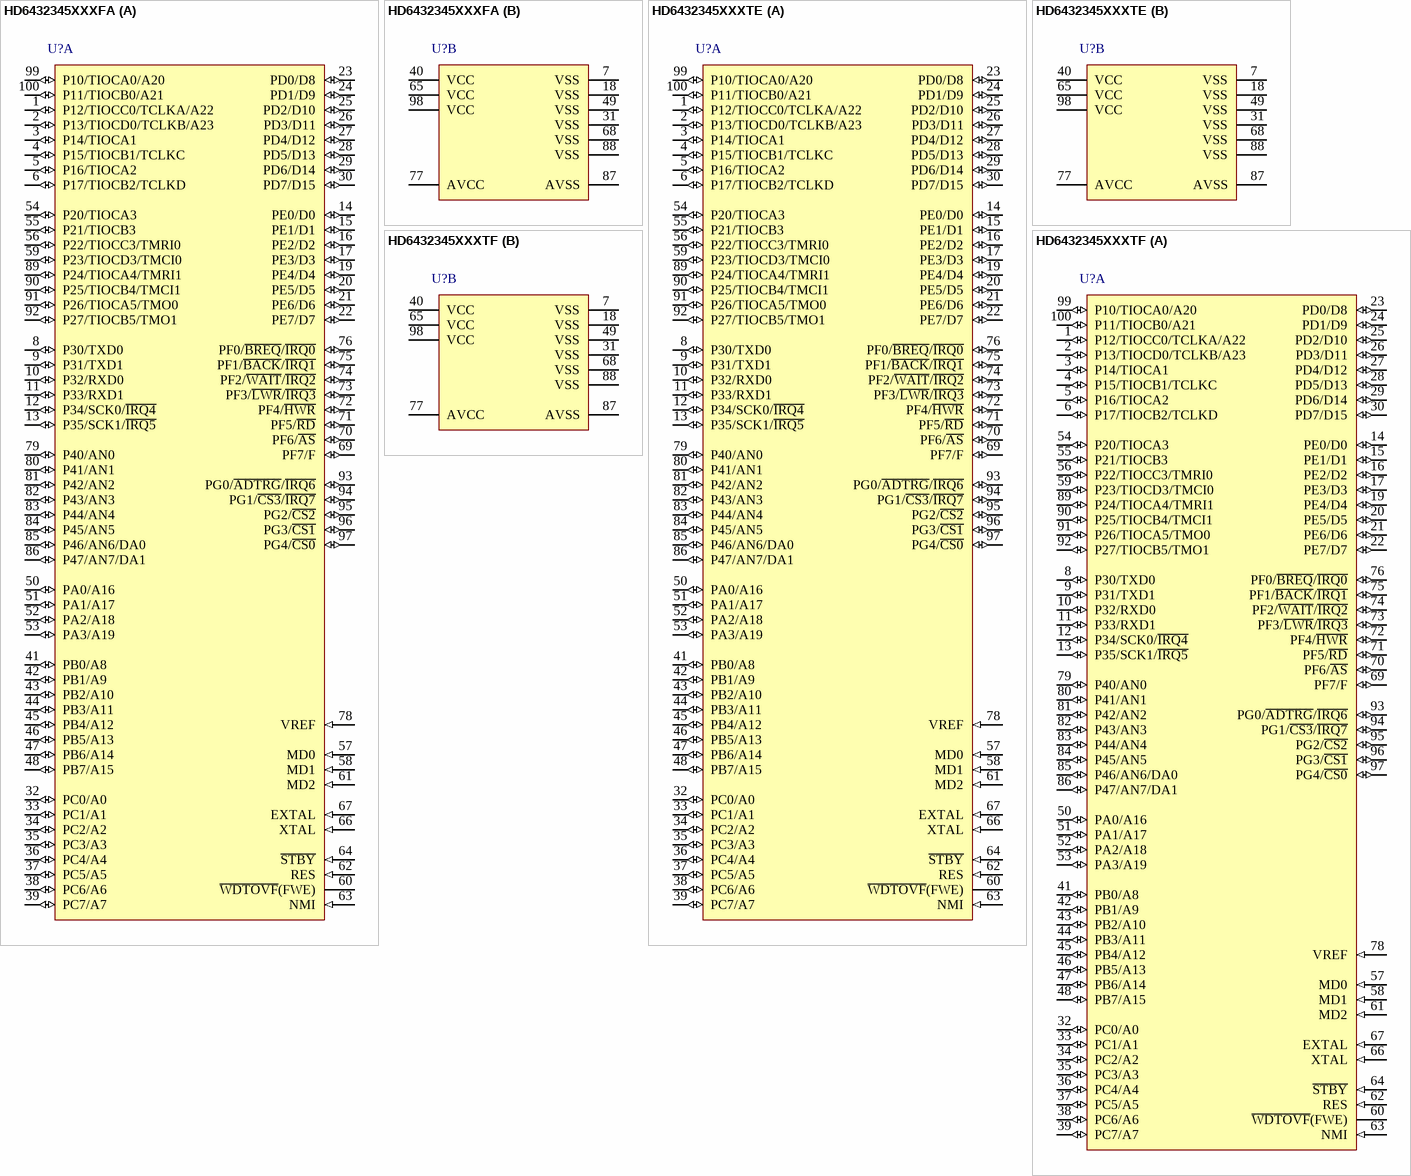
[diagram p173: symbols HD6432345XXXFA to HD6432345XXXTF]

## HD6432345XXXFA
designator U?
Mask ROM H8S/2300 Series, 2345 Group MCU, 128K ROM, 4K RAM, FP-100B Pkg; Published: 28-Aug-2009; DatasheetVersion: Rev.4.00, Feb-2006; PackageVersion: Sep-2009; PackageReference: PRQP0100KA-A; Publisher: Altium Limited; PackageDescription: 100-Pin Plastic Quad Flat Pack, 14 x 14 x 2.7 mm Body, 0.5 mm Pitch; Code_JEITA: P-QFP100-14x14-0.50; ComponentLink1Description: Manufacturer Link; ComponentLink1URL: http://sg.renesas.com/fmwk.jsp?cnt=h8s_family_landing.jsp&fp=/products/mpumcu/h8s_family/; ComponentLink2Description: Datasheet; ComponentLink2URL: http://documentation.renesas.com/eng/products/mpumcu/rej09b0291_2345hm.pdf; ComponentLink3Description: Packaging Specification; ComponentLink3URL: http://sg.renesas.com/media/products/common_info/package/pdf/ic/code/prqp0100ka_a.pdf
footprint PRQP0100KA-A_N (Shrink QFP, 100-Leads, Body 14x14mm, Pitch 0.5mm, IPC Medium Density)
footprint PRQP0100KA-A_L (Shrink QFP, 100-Leads, Body 14x14mm, Pitch 0.5mm, IPC High Density)
footprint PRQP0100KA-A_M (Shrink QFP, 100-Leads, Body 14x14mm, Pitch 0.5mm, IPC Low Density)
part A pins: 1 P12/TIOCC0/TCLKA/A22 (io), 2 P13/TIOCD0/TCLKB/A23 (io), 3 P14/TIOCA1 (io), 4 P15/TIOCB1/TCLKC (io), 5 P16/TIOCA2 (io), 6 P17/TIOCB2/TCLKD (io), 8 P30/TXD0 (io), 9 P31/TXD1 (io), 10 P32/RXD0 (io), 11 P33/RXD1 (io), 12 P34/SCK0/~{IRQ4} (io), 13 P35/SCK1/~{IRQ5} (io), 14 PE0/D0 (io), 15 PE1/D1 (io), 16 PE2/D2 (io), 17 PE3/D3 (io), 19 PE4/D4 (io), 20 PE5/D5 (io), 21 PE6/D6 (io), 22 PE7/D7 (io), 23 PD0/D8 (io), 24 PD1/D9 (io), 25 PD2/D10 (io), 26 PD3/D11 (io), 27 PD4/D12 (io), 28 PD5/D13 (io), 29 PD6/D14 (io), 30 PD7/D15 (io), 32 PC0/A0 (io), 33 PC1/A1 (io), 34 PC2/A2 (io), 35 PC3/A3 (io), 36 PC4/A4 (io), 37 PC5/A5 (io), 38 PC6/A6 (io), 39 PC7/A7 (io), 41 PB0/A8 (io), 42 PB1/A9 (io), 43 PB2/A10 (io), 44 PB3/A11 (io), 45 PB4/A12 (io), 46 PB5/A13 (io), 47 PB6/A14 (io), 48 PB7/A15 (io), 50 PA0/A16 (io), 51 PA1/A17 (io), 52 PA2/A18 (io), 53 PA3/A19 (io), 54 P20/TIOCA3 (io), 55 P21/TIOCB3 (io), 56 P22/TIOCC3/TMRI0 (io), 57 MD0 (in), 58 MD1 (in), 59 P23/TIOCD3/TMCI0 (io), 60 ~{WDTOVF}(FWE), 61 MD2 (in), 62 RES (in), 63 NMI (in), 64 ~{STBY} (in), 66 XTAL (in), 67 EXTAL (in), 69 PF7/F (io), 70 PF6/~{AS} (io), 71 PF5/~{RD} (io), 72 PF4/~{HWR} (io), 73 PF3/~{LWR}/~{IRQ3} (io), 74 PF2/~{WAIT}/~{IRQ2} (io), 75 PF1/~{BACK}/~{IRQ1} (io), 76 PF0/~{BREQ}/~{IRQ0} (io), 78 VREF (in), 79 P40/AN0 (io), 80 P41/AN1 (io), 81 P42/AN2 (io), 82 P43/AN3 (io), 83 P44/AN4 (io), 84 P45/AN5 (io), 85 P46/AN6/DA0 (io), 86 P47/AN7/DA1 (io), 89 P24/TIOCA4/TMRI1 (io), 90 P25/TIOCB4/TMCI1 (io), 91 P26/TIOCA5/TMO0 (io), 92 P27/TIOCB5/TMO1 (io), 93 PG0/~{ADTRG}/~{IRQ6} (io), 94 PG1/~{CS3}/~{IRQ7} (io), 95 PG2/~{CS2} (io), 96 PG3/~{CS1} (io), 97 PG4/~{CS0} (io), 99 P10/TIOCA0/A20 (io), 100 P11/TIOCB0/A21 (io)
part B pins: 7 VSS (power), 18 VSS (power), 31 VSS (power), 40 VCC (power), 49 VSS (power), 65 VCC (power), 68 VSS (power), 77 AVCC (power), 87 AVSS (power), 88 VSS (power), 98 VCC (power)

## HD6432345XXXTE
designator U?
Mask ROM H8S/2300 Series, 2345 Group MCU, 128K ROM, 4K RAM, TFP-100B Pkg; Published: 28-Aug-2009; DatasheetVersion: Rev.4.00, Feb-2006; PackageVersion: Sep-2005; PackageReference: PTQP0100KA-A; Publisher: Altium Limited; PackageDescription: 100-Pin Plastic Thin Quad Flat Pack, 14 x 14 x 1.0 mm Body, 0.5 mm Pitch; Code_JEITA: P-TQFP100-14x14-0.50; ComponentLink1Description: Manufacturer Link; ComponentLink1URL: http://sg.renesas.com/fmwk.jsp?cnt=h8s_family_landing.jsp&fp=/products/mpumcu/h8s_family/; ComponentLink2Description: Datasheet; ComponentLink2URL: http://documentation.renesas.com/eng/products/mpumcu/rej09b0291_2345hm.pdf; ComponentLink3Description: Packaging Specification; ComponentLink3URL: http://sg.renesas.com/media/products/common_info/package/pdf/ic/code/ptqp0100ka_a.pdf
footprint PTQP0100KA-A_N (Thin QFP, 100-Leads, Body 14x14mm, Pitch 0.5mm, IPC Medium Density)
footprint PTQP0100KA-A_L (Thin QFP, 100-Leads, Body 14x14mm, Pitch 0.5mm, IPC High Density)
footprint PTQP0100KA-A_M (Thin QFP, 100-Leads, Body 14x14mm, Pitch 0.5mm, IPC Low Density)
part A pins: 1 P12/TIOCC0/TCLKA/A22 (io), 2 P13/TIOCD0/TCLKB/A23 (io), 3 P14/TIOCA1 (io), 4 P15/TIOCB1/TCLKC (io), 5 P16/TIOCA2 (io), 6 P17/TIOCB2/TCLKD (io), 8 P30/TXD0 (io), 9 P31/TXD1 (io), 10 P32/RXD0 (io), 11 P33/RXD1 (io), 12 P34/SCK0/~{IRQ4} (io), 13 P35/SCK1/~{IRQ5} (io), 14 PE0/D0 (io), 15 PE1/D1 (io), 16 PE2/D2 (io), 17 PE3/D3 (io), 19 PE4/D4 (io), 20 PE5/D5 (io), 21 PE6/D6 (io), 22 PE7/D7 (io), 23 PD0/D8 (io), 24 PD1/D9 (io), 25 PD2/D10 (io), 26 PD3/D11 (io), 27 PD4/D12 (io), 28 PD5/D13 (io), 29 PD6/D14 (io), 30 PD7/D15 (io), 32 PC0/A0 (io), 33 PC1/A1 (io), 34 PC2/A2 (io), 35 PC3/A3 (io), 36 PC4/A4 (io), 37 PC5/A5 (io), 38 PC6/A6 (io), 39 PC7/A7 (io), 41 PB0/A8 (io), 42 PB1/A9 (io), 43 PB2/A10 (io), 44 PB3/A11 (io), 45 PB4/A12 (io), 46 PB5/A13 (io), 47 PB6/A14 (io), 48 PB7/A15 (io), 50 PA0/A16 (io), 51 PA1/A17 (io), 52 PA2/A18 (io), 53 PA3/A19 (io), 54 P20/TIOCA3 (io), 55 P21/TIOCB3 (io), 56 P22/TIOCC3/TMRI0 (io), 57 MD0 (in), 58 MD1 (in), 59 P23/TIOCD3/TMCI0 (io), 60 ~{WDTOVF}(FWE), 61 MD2 (in), 62 RES (in), 63 NMI (in), 64 ~{STBY} (in), 66 XTAL (in), 67 EXTAL (in), 69 PF7/F (io), 70 PF6/~{AS} (io), 71 PF5/~{RD} (io), 72 PF4/~{HWR} (io), 73 PF3/~{LWR}/~{IRQ3} (io), 74 PF2/~{WAIT}/~{IRQ2} (io), 75 PF1/~{BACK}/~{IRQ1} (io), 76 PF0/~{BREQ}/~{IRQ0} (io), 78 VREF (in), 79 P40/AN0 (io), 80 P41/AN1 (io), 81 P42/AN2 (io), 82 P43/AN3 (io), 83 P44/AN4 (io), 84 P45/AN5 (io), 85 P46/AN6/DA0 (io), 86 P47/AN7/DA1 (io), 89 P24/TIOCA4/TMRI1 (io), 90 P25/TIOCB4/TMCI1 (io), 91 P26/TIOCA5/TMO0 (io), 92 P27/TIOCB5/TMO1 (io), 93 PG0/~{ADTRG}/~{IRQ6} (io), 94 PG1/~{CS3}/~{IRQ7} (io), 95 PG2/~{CS2} (io), 96 PG3/~{CS1} (io), 97 PG4/~{CS0} (io), 99 P10/TIOCA0/A20 (io), 100 P11/TIOCB0/A21 (io)
part B pins: 7 VSS (power), 18 VSS (power), 31 VSS (power), 40 VCC (power), 49 VSS (power), 65 VCC (power), 68 VSS (power), 77 AVCC (power), 87 AVSS (power), 88 VSS (power), 98 VCC (power)

## HD6432345XXXTF
designator U?
Mask ROM H8S/2300 Series, 2345 Group MCU, 128K ROM, 4K RAM, TFP-100G Pkg; Published: 28-Aug-2009; DatasheetVersion: Rev.4.00, Feb-2006; PackageVersion: Sep-2005; PackageReference: PTQP0100LC-A; Publisher: Altium Limited; PackageDescription: 100-Pin Plastic Thin QFP, 12 x 12 x 1.0 mm Body, 0.4 mm Pitch; Code_JEITA: P-TQFP100-12x12-0.40; ComponentLink1Description: Manufacturer Link; ComponentLink1URL: http://sg.renesas.com/fmwk.jsp?cnt=h8s_family_landing.jsp&fp=/products/mpumcu/h8s_family/; ComponentLink2Description: Datasheet; ComponentLink2URL: http://documentation.renesas.com/eng/products/mpumcu/rej09b0291_2345hm.pdf; ComponentLink3Description: Packaging Specification; ComponentLink3URL: http://sg.renesas.com/media/products/common_info/package/pdf/ic/code/ptqp0100lc_a.pdf
footprint PTQP0100LC-A_N (Thin QFP, 100-Leads, Body 12x12mm, Pitch 0.4mm, IPC Medium Density)
footprint PTQP0100LC-A_L (Thin QFP, 100-Leads, Body 12x12mm, Pitch 0.4mm, IPC High Density)
footprint PTQP0100LC-A_M (Thin QFP, 100-Leads, Body 12x12mm, Pitch 0.4mm, IPC Low Density)
part A pins: 1 P12/TIOCC0/TCLKA/A22 (io), 2 P13/TIOCD0/TCLKB/A23 (io), 3 P14/TIOCA1 (io), 4 P15/TIOCB1/TCLKC (io), 5 P16/TIOCA2 (io), 6 P17/TIOCB2/TCLKD (io), 8 P30/TXD0 (io), 9 P31/TXD1 (io), 10 P32/RXD0 (io), 11 P33/RXD1 (io), 12 P34/SCK0/~{IRQ4} (io), 13 P35/SCK1/~{IRQ5} (io), 14 PE0/D0 (io), 15 PE1/D1 (io), 16 PE2/D2 (io), 17 PE3/D3 (io), 19 PE4/D4 (io), 20 PE5/D5 (io), 21 PE6/D6 (io), 22 PE7/D7 (io), 23 PD0/D8 (io), 24 PD1/D9 (io), 25 PD2/D10 (io), 26 PD3/D11 (io), 27 PD4/D12 (io), 28 PD5/D13 (io), 29 PD6/D14 (io), 30 PD7/D15 (io), 32 PC0/A0 (io), 33 PC1/A1 (io), 34 PC2/A2 (io), 35 PC3/A3 (io), 36 PC4/A4 (io), 37 PC5/A5 (io), 38 PC6/A6 (io), 39 PC7/A7 (io), 41 PB0/A8 (io), 42 PB1/A9 (io), 43 PB2/A10 (io), 44 PB3/A11 (io), 45 PB4/A12 (io), 46 PB5/A13 (io), 47 PB6/A14 (io), 48 PB7/A15 (io), 50 PA0/A16 (io), 51 PA1/A17 (io), 52 PA2/A18 (io), 53 PA3/A19 (io), 54 P20/TIOCA3 (io), 55 P21/TIOCB3 (io), 56 P22/TIOCC3/TMRI0 (io), 57 MD0 (in), 58 MD1 (in), 59 P23/TIOCD3/TMCI0 (io), 60 ~{WDTOVF}(FWE), 61 MD2 (in), 62 RES (in), 63 NMI (in), 64 ~{STBY} (in), 66 XTAL (in), 67 EXTAL (in), 69 PF7/F (io), 70 PF6/~{AS} (io), 71 PF5/~{RD} (io), 72 PF4/~{HWR} (io), 73 PF3/~{LWR}/~{IRQ3} (io), 74 PF2/~{WAIT}/~{IRQ2} (io), 75 PF1/~{BACK}/~{IRQ1} (io), 76 PF0/~{BREQ}/~{IRQ0} (io), 78 VREF (in), 79 P40/AN0 (io), 80 P41/AN1 (io), 81 P42/AN2 (io), 82 P43/AN3 (io), 83 P44/AN4 (io), 84 P45/AN5 (io), 85 P46/AN6/DA0 (io), 86 P47/AN7/DA1 (io), 89 P24/TIOCA4/TMRI1 (io), 90 P25/TIOCB4/TMCI1 (io), 91 P26/TIOCA5/TMO0 (io), 92 P27/TIOCB5/TMO1 (io), 93 PG0/~{ADTRG}/~{IRQ6} (io), 94 PG1/~{CS3}/~{IRQ7} (io), 95 PG2/~{CS2} (io), 96 PG3/~{CS1} (io), 97 PG4/~{CS0} (io), 99 P10/TIOCA0/A20 (io), 100 P11/TIOCB0/A21 (io)
part B pins: 7 VSS (power), 18 VSS (power), 31 VSS (power), 40 VCC (power), 49 VSS (power), 65 VCC (power), 68 VSS (power), 77 AVCC (power), 87 AVSS (power), 88 VSS (power), 98 VCC (power)

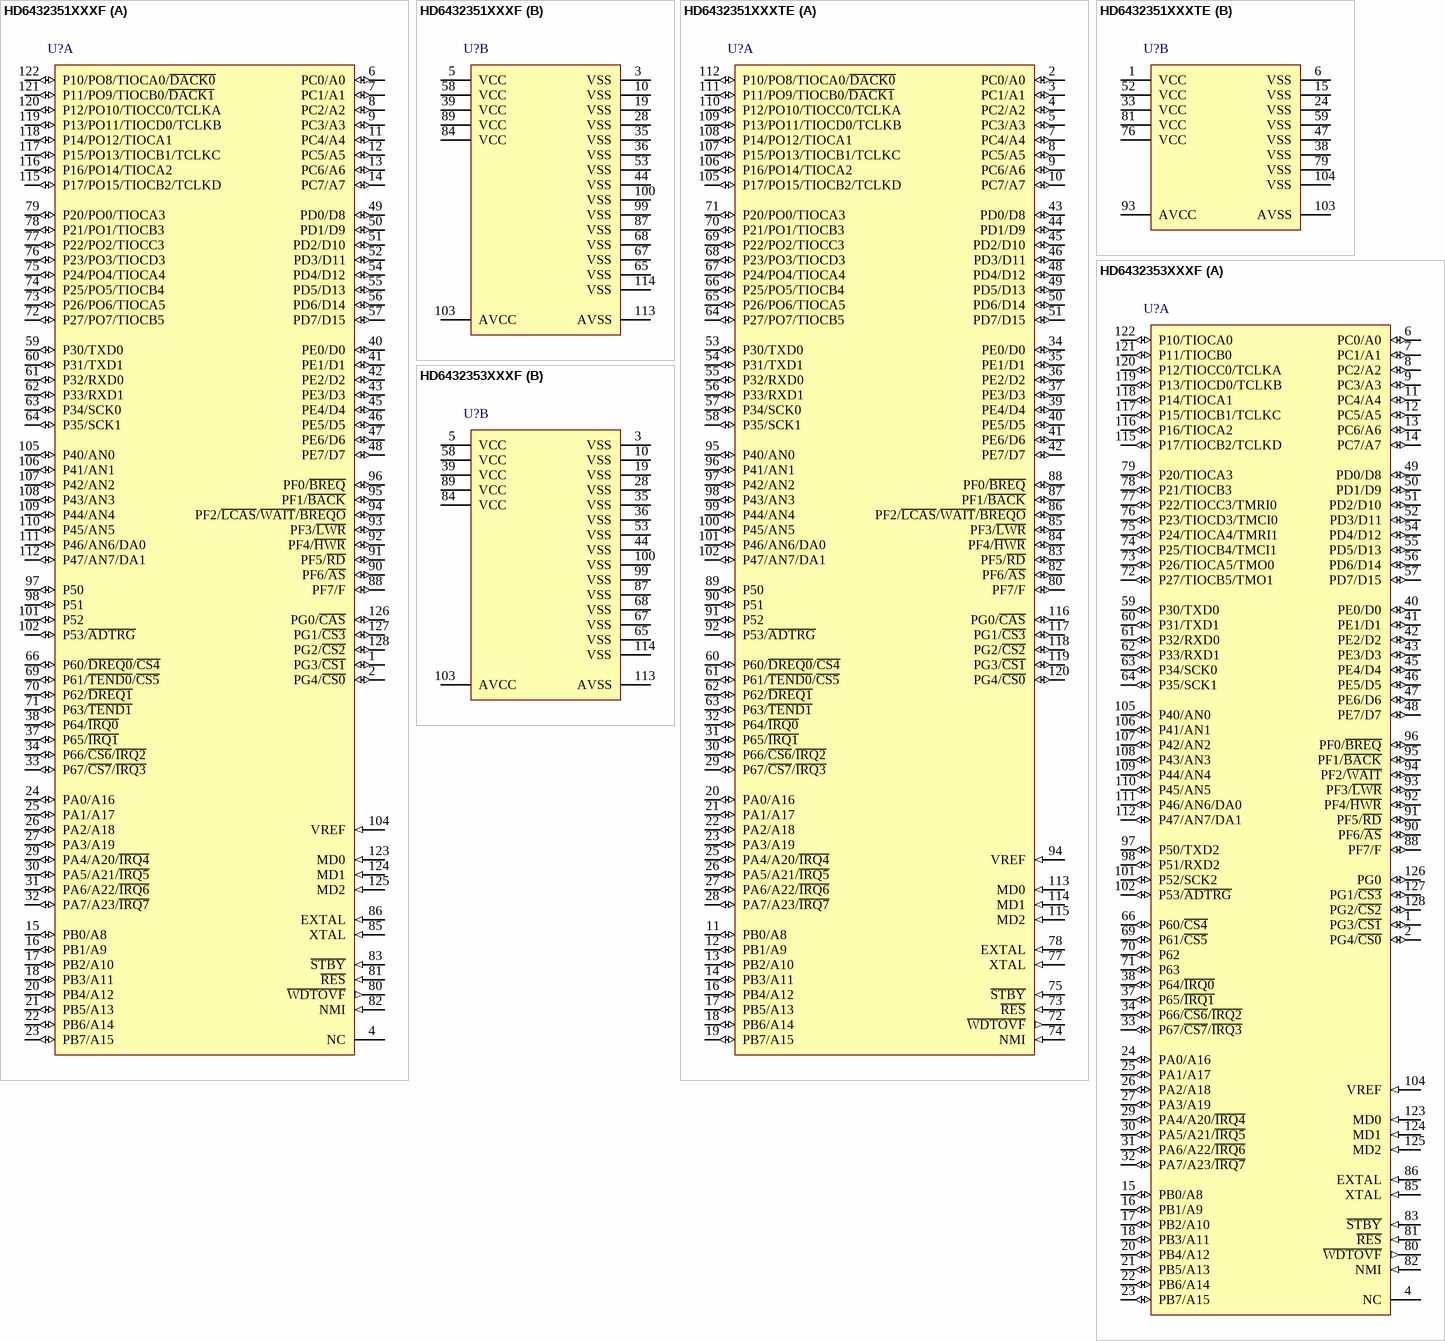
[diagram p174: symbols HD6432351XXXF to HD6432353XXXF]